# Altium schematic symbol library x-io.SchLib: 162 symbols
Pins are listed as number, name and electrical type; pins without a type are passive.

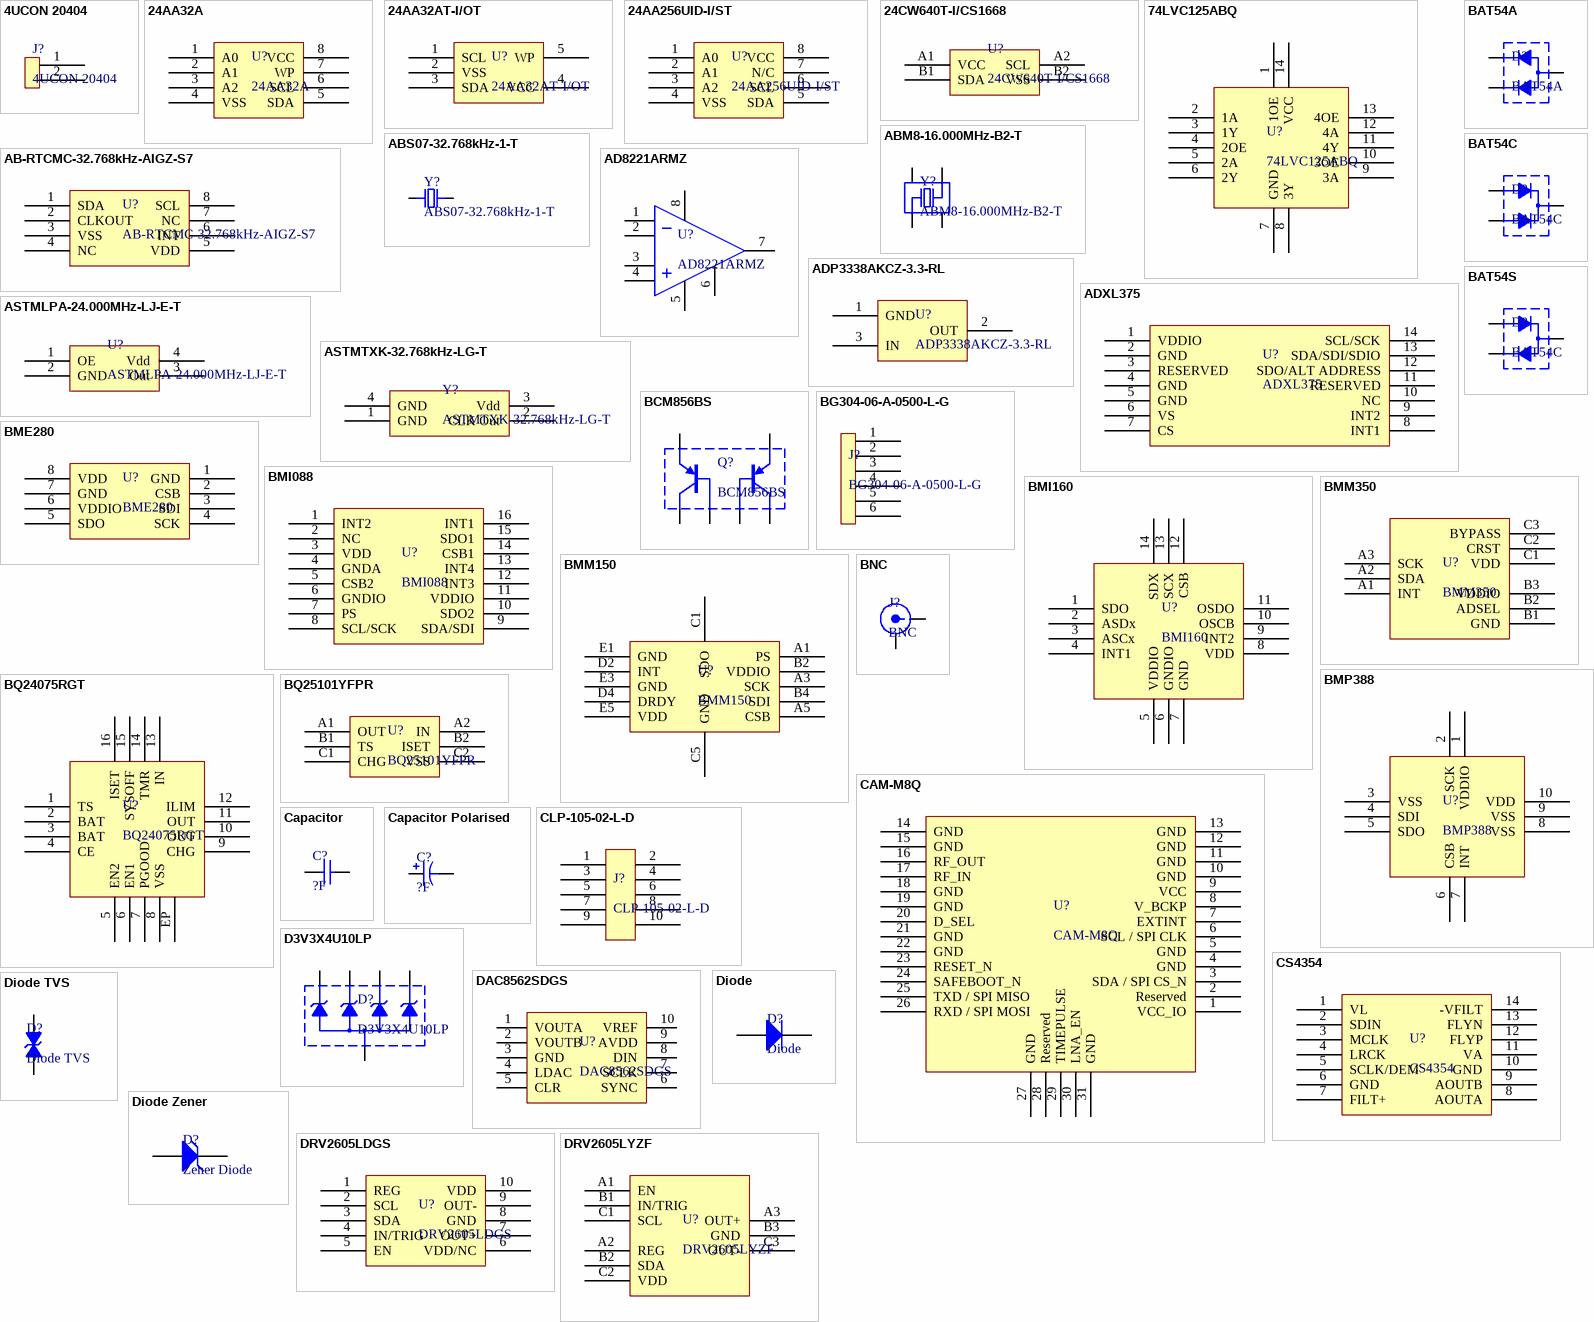
[diagram p0: symbols 4UCON 20404 to DRV2605LYZF]

## 4UCON 20404
designator J?
footprint 4UCON 20404
pins: 1, 2

## 24AA32A
designator U?
footprint SOIC-8
footprint TSSOP-8
footprint MSOP-8
footprint TDFN-8 2x3mm
pins: 1 A0, 2 A1, 3 A2, 4 VSS, 5 SDA, 6 SCL, 7 WP, 8 VCC

## 24AA32AT-I/OT
designator U?
footprint SOT-23-5
pins: 1 SCL, 2 VSS, 3 SDA, 4 VCC, 5 WP

## 24AA256UID-I/ST
designator U?
footprint TSSOP-8
pins: 1 A0, 2 A1, 3 A2, 4 VSS, 5 SDA, 6 SCL, 7 N/C, 8 VCC

## 24CW640T-I/CS1668
designator U?
footprint 24CW640T-I/CS1668
pins: A1 VCC, A2 SCL, B1 SDA, B2 VSS

## 74LVC125ABQ
designator U?
footprint DHVQFN14
pins: 1 1OE, 2 1A, 3 1Y, 4 2OE, 5 2A, 6 2Y, 7 GND, 8 3Y, 9 3A, 10 3OE, 11 4Y, 12 4A, 13 4OE, 14 VCC

## AB-RTCMC-32.768kHz-AIGZ-S7
designator U?
footprint Ceramic-8
pins: 1 SDA, 2 CLKOUT, 3 VSS, 4 NC, 5 VDD, 6 INT, 7 NC, 8 SCL

## ABM8-16.000MHz-B2-T
designator Y?
footprint ABM8
pins: 1 Y1, 2 GND, 3 Y2, 4 GND

## ABS07-32.768kHz-1-T
designator Y?
footprint ABS07
pins: 1, 2

## AD8221ARMZ
designator U?
footprint MSOP-8
pins: 1 -IN, 2 RG, 3 RG, 4 +IN, 5 -VS, 6 REF, 7 VOUT, 8 +VS

## ADP3338AKCZ-3.3-RL
designator U?
footprint SOT-223
pins: 1 GND, 2 OUT, 3 IN

## ADXL375
designator U?
footprint ADXL375
pins: 1 VDDIO, 2 GND, 3 RESERVED, 4 GND, 5 GND, 6 VS, 7 CS, 8 INT1, 9 INT2, 10 NC, 11 RESERVED, 12 SDO/ALT ADDRESS, 13 SDA/SDI/SDIO, 14 SCL/SCK

## ASTMLPA-24.000MHz-LJ-E-T
designator U?
footprint ASTMLPA
pins: 1 OE, 2 GND, 3 Out, 4 Vdd

## ASTMTXK-32.768kHz-LG-T
designator Y?
footprint ASTMTXK
pins: 1 GND, 2 CLK Out, 3 Vdd, 4 GND

## BAT54A
designator D?
footprint SOT-23
footprint SOT-323
pins: 1 K1, 2 K2, 3 A

## BAT54C
designator D?
footprint SOT-323
footprint SOT-23
pins: 1 A1, 2 A2, 3 K

## BAT54S
designator D?, comment BAT54C
footprint SOT-323
footprint SOT-23
pins: 1 A1, 2 A2, 3 K

## BCM856BS
designator Q?
footprint SOT-363
pins: 1 E1, 2 B1, 3 C2, 4 E2, 5 B2, 6 C1

## BG304-06-A-0500-L-G
designator J?
footprint BG304-06-A-0500-L-G
pins: 1, 2, 3, 4, 5, 6

## BME280
designator U?
footprint BME280
pins: 1 GND, 2 CSB, 3 SDI, 4 SCK, 5 SDO, 6 VDDIO, 7 GND, 8 VDD

## BMI088
designator U?
footprint BMI088
pins: 1 INT2, 2 NC, 3 VDD, 4 GNDA, 5 CSB2, 6 GNDIO, 7 PS, 8 SCL/SCK, 9 SDA/SDI, 10 SDO2, 11 VDDIO, 12 INT3, 13 INT4, 14 CSB1, 15 SDO1, 16 INT1

## BMI160
designator U?
footprint BMI160
pins: 1 SDO, 2 ASDx, 3 ASCx, 4 INT1, 5 VDDIO, 6 GNDIO, 7 GND, 8 VDD, 9 INT2, 10 OSCB, 11 OSDO, 12 CSB, 13 SCX, 14 SDX

## BMM150
designator U?
footprint BMM150
pins: A1 PS, A3 SCK, A5 CSB, B2 VDDIO, B4 SDI, C1 SDO, C5 GND, D2 INT, D4 DRDY, E1 GND, E3 GND, E5 VDD

## BMM350
designator U?
footprint BMM350
pins: A1 INT, A2 SDA, A3 SCK, B1 GND, B2 ADSEL, B3 VDDIO, C1 VDD, C2 CRST, C3 BYPASS

## BMP388
designator U?
footprint BMP388
pins: 1 VDDIO, 2 SCK, 3 VSS, 4 SDI, 5 SDO, 6 CSB, 7 INT, 8 VSS, 9 VSS, 10 VDD

## BNC
designator J?
footprint B6252H7-NPP3G-50
footprint Amphenol 112640
pins: Shield, Signal

## BQ24075RGT
designator U?
footprint VQFN-16
pins: 1 TS, 2 BAT, 3 BAT, 4 CE, 5 EN2, 6 EN1, 7 PGOOD, 8 VSS, 9 CHG, 10 OUT, 11 OUT, 12 ILIM, 13 IN, 14 TMR, 15 SYSOFF, 16 ISET, EP *

## BQ25101YFPR
designator U?
footprint BQ25101YFPR
pins: A1 OUT, A2 IN, B1 TS, B2 ISET, C1 CHG, C2 VSS

## CAM-M8Q
designator U?
footprint CAM-M8Q
pins: 1 VCC_IO, 2 Reserved, 3 SDA / SPI CS_N, 4 GND, 5 GND, 6 SCL / SPI CLK, 7 EXTINT, 8 V_BCKP, 9 VCC, 10 GND, 11 GND, 12 GND, 13 GND, 14 GND, 15 GND, 16 RF_OUT, 17 RF_IN, 18 GND, 19 GND, 20 D_SEL, 21 GND, 22 GND, 23 RESET_N, 24 SAFEBOOT_N, 25 TXD / SPI MISO, 26 RXD / SPI MOSI, 27 GND, 28 Reserved, 29 TIMEPULSE, 30 LNA_EN, 31 GND

## Capacitor
designator C?, comment ?F
footprint Capacitor 0402
footprint Capacitor 0603
footprint Capacitor 0805
footprint Capacitor 0201
pins: 1, 2

## Capacitor Polarised
designator C?, comment ?F
footprint Tantalum Case D
pins: N, P

## CLP-105-02-L-D
designator J?
footprint CLP-105-02-L-D
pins: 1 *, 2 *, 3 *, 4 *, 5 *, 6 *, 7 *, 8 *, 9 *, 10 *

## CS4354
designator U?
footprint SOIC-14
pins: 1 VL, 2 SDIN, 3 MCLK, 4 LRCK, 5 SCLK/DEM, 6 GND, 7 FILT+, 8 AOUTA, 9 AOUTB, 10 GND, 11 VA, 12 FLYP, 13 FLYN, 14 -VFILT

## D3V3X4U10LP
designator D?
footprint D3V3X4U10LP
pins: A, K1, K2, K3, K4

## DAC8562SDGS
designator U?
footprint VSSOP-10
pins: 1 VOUTA, 2 VOUTB, 3 GND, 4 LDAC, 5 CLR, 6 SYNC, 7 SCLK, 8 DIN, 9 AVDD, 10 VREF

## Diode
designator D?
footprint DO-214AC
footprint SOD-123
footprint DSN2
pins: A, K

## Diode TVS
designator D?
footprint Diode TVS 0402
footprint Diode TVS 0603
pins: 1 *, 2 *

## Diode Zener
designator D?, comment Zener Diode
footprint SOD-123
pins: A, K

## DRV2605LDGS
designator U?
footprint VSSop-10
pins: 1 REG, 2 SCL, 3 SDA, 4 IN/TRIG, 5 EN, 6 VDD/NC, 7 OUT+, 8 GND, 9 OUT-, 10 VDD

## DRV2605LYZF
designator U?
footprint DRV2605LYZF
pins: A1 EN, A2 REG, A3 OUT+, B1 IN/TRIG, B2 SDA, B3 GND, C1 SCL, C2 VDD, C3 OUT-

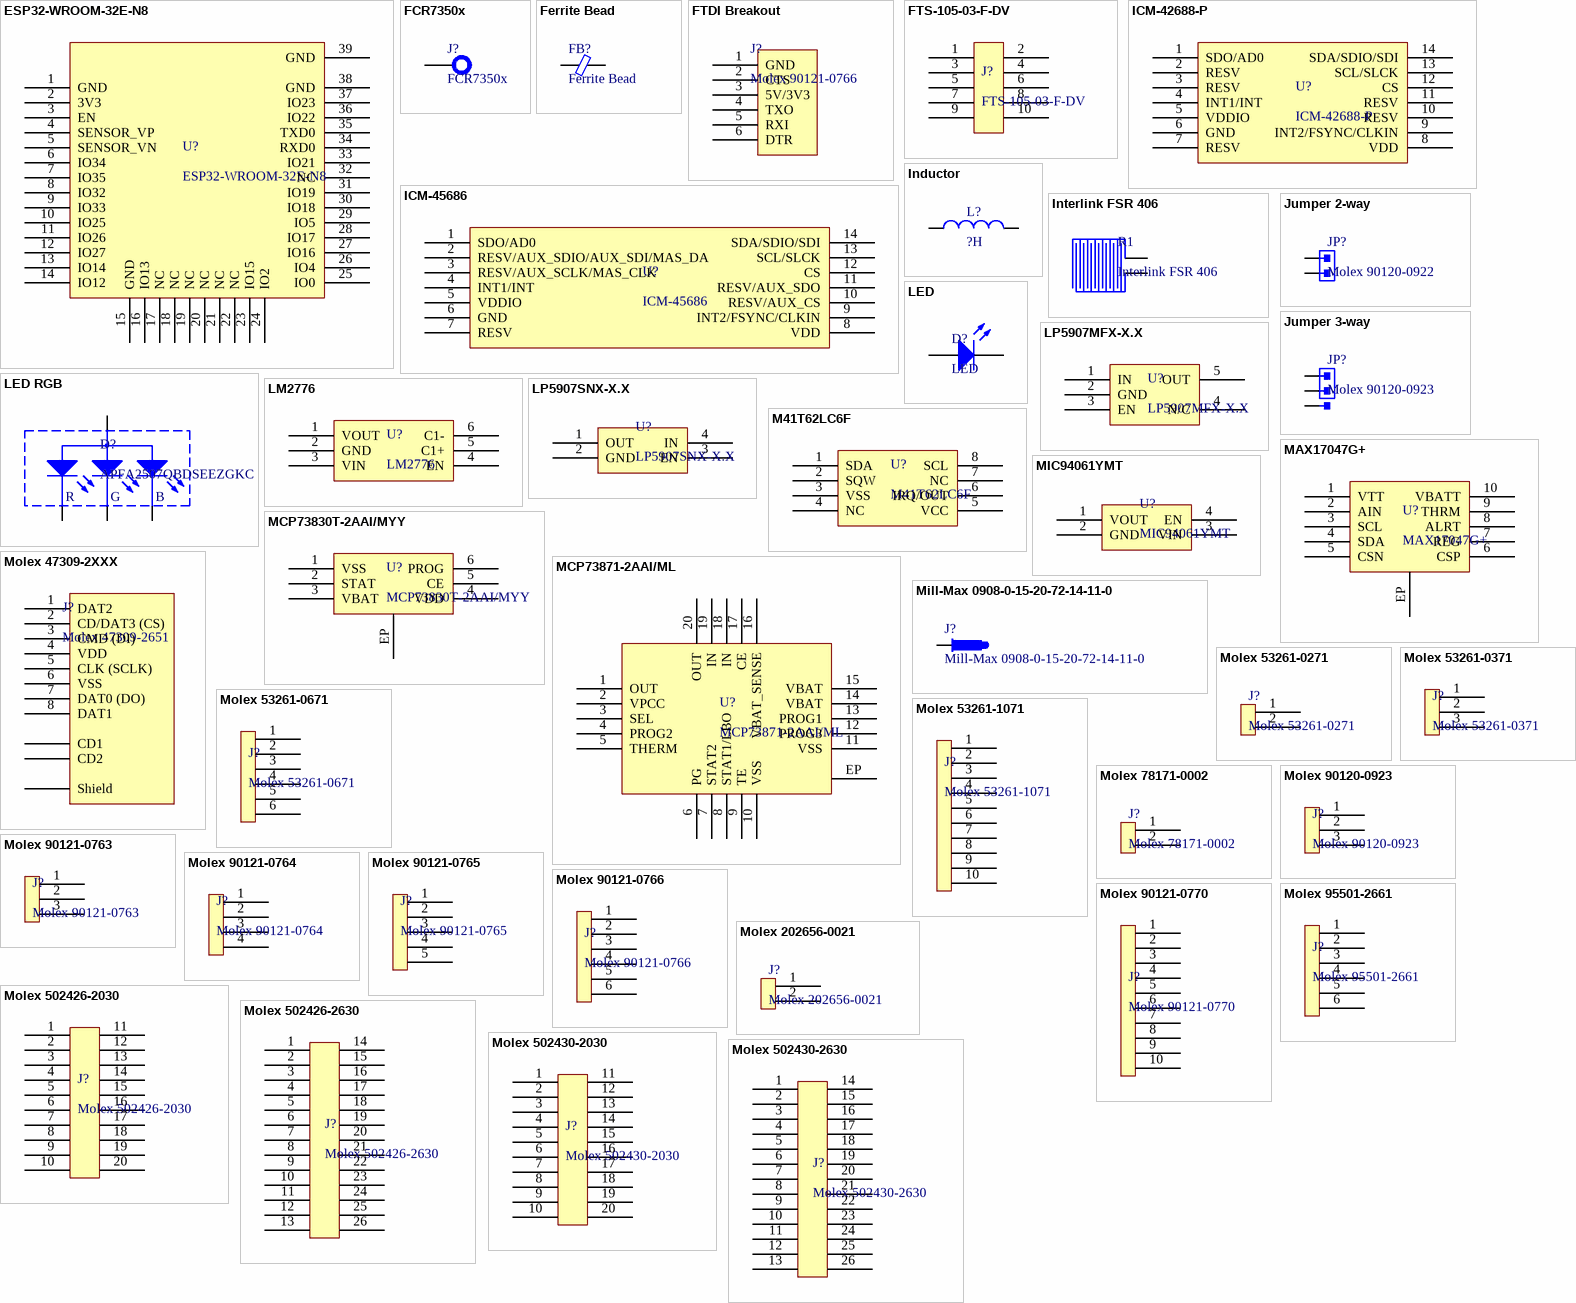
[diagram p1: symbols ESP32-WROOM-32E-N8 to Molex 502430-2630]

## ESP32-WROOM-32E-N8
designator U?
footprint ESP32-WROOM-32E-N8
pins: 1 GND, 2 3V3, 3 EN, 4 SENSOR_VP, 5 SENSOR_VN, 6 IO34, 7 IO35, 8 IO32, 9 IO33, 10 IO25, 11 IO26, 12 IO27, 13 IO14, 14 IO12, 15 GND, 16 IO13, 17 NC, 18 NC, 19 NC, 20 NC, 21 NC, 22 NC, 23 IO15, 24 IO2, 25 IO0, 26 IO4, 27 IO16, 28 IO17, 29 IO5, 30 IO18, 31 IO19, 32 NC, 33 IO21, 34 RXD0, 35 TXD0, 36 IO22, 37 IO23, 38 GND, 39 GND

## FCR7350x
designator J?
footprint FCR7350B
footprint FCR7350R
pins: Signal *

## Ferrite Bead
designator FB?
footprint Ferrite Bead 0402
pins: 1, 2

## FTDI Breakout
designator J?, comment Molex 90121-0766
footprint Molex 90120-0926
footprint Molex 90121-0766
footprint Molex 90121-0766 with FTDI Breakout
pins: 1 GND, 2 CTS, 3 5V/3V3, 4 TXO, 5 RXI, 6 DTR

## FTS-105-03-F-DV
designator J?
footprint FTS-105-03-F-DV
pins: 1 *, 2 *, 3 *, 4 *, 5 *, 6 *, 7 *, 8 *, 9 *, 10 *

## ICM-42688-P
designator U?
footprint ICM-42688-P
pins: 1 SDO/AD0, 2 RESV, 3 RESV, 4 INT1/INT, 5 VDDIO, 6 GND, 7 RESV, 8 VDD, 9 INT2/FSYNC/CLKIN, 10 RESV, 11 RESV, 12 CS, 13 SCL/SLCK, 14 SDA/SDIO/SDI

## ICM-45686
designator U?
footprint ICM-45686
pins: 1 SDO/AD0, 2 RESV/AUX_SDIO/AUX_SDI/MAS_DA, 3 RESV/AUX_SCLK/MAS_CLK, 4 INT1/INT, 5 VDDIO, 6 GND, 7 RESV, 8 VDD, 9 INT2/FSYNC/CLKIN, 10 RESV/AUX_CS, 11 RESV/AUX_SDO, 12 CS, 13 SCL/SLCK, 14 SDA/SDIO/SDI

## Inductor
designator L?, comment ?H
footprint MSS5131
footprint Inductor 1008
footprint VLCF4020
footprint LQH3NPN
footprint SRN3015C
pins: 1, 2

## Interlink FSR 406
designator R1
footprint Interlink FSR 406
pins: 1, 2

## Jumper 2-way
designator JP?, comment Molex 90120-0922
footprint Molex 90120-0922 with jumper
pins: 1, 2

## Jumper 3-way
designator JP?, comment Molex 90120-0923
footprint Molex 90120-0923 with jumper
pins: 1, 2, 3

## LED
designator D?
footprint LED 0603
footprint LED 3mm
pins: A, K

## LED RGB
designator D?, comment APFA2507QBDSEEZGKC
footprint APFA2507QBDSEEZGKC
pins: A, KB, KG, KR
text: R; G; B

## LM2776
designator U?
footprint SOT-23-6
pins: 1 VOUT, 2 GND, 3 VIN, 4 EN, 5 C1+, 6 C1-

## LP5907MFX-X.X
designator U?
footprint SOT-23-5
pins: 1 IN, 2 GND, 3 EN, 4 N/C, 5 OUT

## LP5907SNX-X.X
designator U?
footprint X2SON
pins: 1 OUT, 2 GND, 3 EN, 4 IN

## M41T62LC6F
designator U?
footprint Ceramic-8
pins: 1 SDA, 2 SQW, 3 VSS, 4 NC, 5 VCC, 6 IRQ/OUT, 7 NC, 8 SCL

## MAX17047G+
designator U?
footprint TDFN-10 3x3mm
pins: 1 VTT, 2 AIN, 3 SCL, 4 SDA, 5 CSN, 6 CSP, 7 REG, 8 ALRT, 9 THRM, 10 VBATT, EP

## MCP73830T-2AAI/MYY
designator U?
footprint TDFN-6 2x2mm
pins: 1 VSS, 2 STAT, 3 VBAT, 4 VDD, 5 CE, 6 PROG, EP

## MCP73871-2AAI/ML
designator U?
footprint QFN-20 EP
pins: 1 OUT, 2 VPCC, 3 SEL, 4 PROG2, 5 THERM, 6 PG, 7 STAT2, 8 STAT1/LBO, 9 TE, 10 VSS, 11 VSS, 12 PROG3, 13 PROG1, 14 VBAT, 15 VBAT, 16 VBAT_SENSE, 17 CE, 18 IN, 19 IN, 20 OUT, EP

## MIC94061YMT
designator U?
footprint MIC94061YMT
pins: 1 VOUT, 2 GND, 3 VIN, 4 EN

## Mill-Max 0908-0-15-20-72-14-11-0
designator J?
footprint Mill-Max 0908-0-15-20-72-14-11-0
pins: 0

## Molex 47309-2XXX
designator J?, comment Molex 47309-2651
footprint Molex 47309-2651
footprint Molex 47309-2651 with microSD
footprint Molex 47309-2285
footprint Molex 47309-2285 with microSD
pins: 1 DAT2, 2 CD/DAT3 (CS), 3 CMD (DI), 4 VDD, 5 CLK (SCLK), 6 VSS, 7 DAT0 (DO), 8 DAT1, CD1, CD2, Shield

## Molex 53261-0271
designator J?
footprint Molex 53261-0271
pins: 1, 2

## Molex 53261-0371
designator J?
footprint Molex 53261-0371
pins: 1, 2, 3

## Molex 53261-0671
designator J?
footprint Molex 53261-0671
pins: 1, 2, 3, 4, 5, 6

## Molex 53261-1071
designator J?
footprint Molex 53261-1071
pins: 1, 2, 3, 4, 5, 6, 7, 8, 9, 10

## Molex 78171-0002
designator J?
footprint Molex 78171-0002
pins: 1, 2

## Molex 90120-0923
designator J?
footprint Molex 90120-0923
pins: 1, 2, 3

## Molex 90121-0763
designator J?
footprint Molex 90121-0763
pins: 1, 2, 3

## Molex 90121-0764
designator J?
footprint Molex 90121-0764
pins: 1, 2, 3, 4

## Molex 90121-0765
designator J?
footprint Molex 90121-0765
pins: 1, 2, 3, 4, 5

## Molex 90121-0766
designator J?
footprint Molex 90121-0766
pins: 1, 2, 3, 4, 5, 6

## Molex 90121-0770
designator J?
footprint Molex 90121-0770
pins: 1, 2, 3, 4, 5, 6, 7, 8, 9, 10

## Molex 95501-2661
designator J?
footprint Molex 95501-2661
pins: 1, 2, 3, 4, 5, 6

## Molex 202656-0021
designator J?
footprint Molex 202656-0021
pins: 1, 2

## Molex 502426-2030
designator J?
footprint Molex 502426-2030
pins: 1, 2, 3, 4, 5, 6, 7, 8, 9, 10, 11, 12, 13, 14, 15, 16, 17, 18, 19, 20

## Molex 502426-2630
designator J?
footprint Molex 502426-2630
pins: 1, 2, 3, 4, 5, 6, 7, 8, 9, 10, 11, 12, 13, 14, 15, 16, 17, 18, 19, 20, 21, 22, 23, 24, 25, 26

## Molex 502430-2030
designator J?
footprint Molex 502430-2030
pins: 1, 2, 3, 4, 5, 6, 7, 8, 9, 10, 11, 12, 13, 14, 15, 16, 17, 18, 19, 20

## Molex 502430-2630
designator J?
footprint Molex 502430-2630
pins: 1, 2, 3, 4, 5, 6, 7, 8, 9, 10, 11, 12, 13, 14, 15, 16, 17, 18, 19, 20, 21, 22, 23, 24, 25, 26

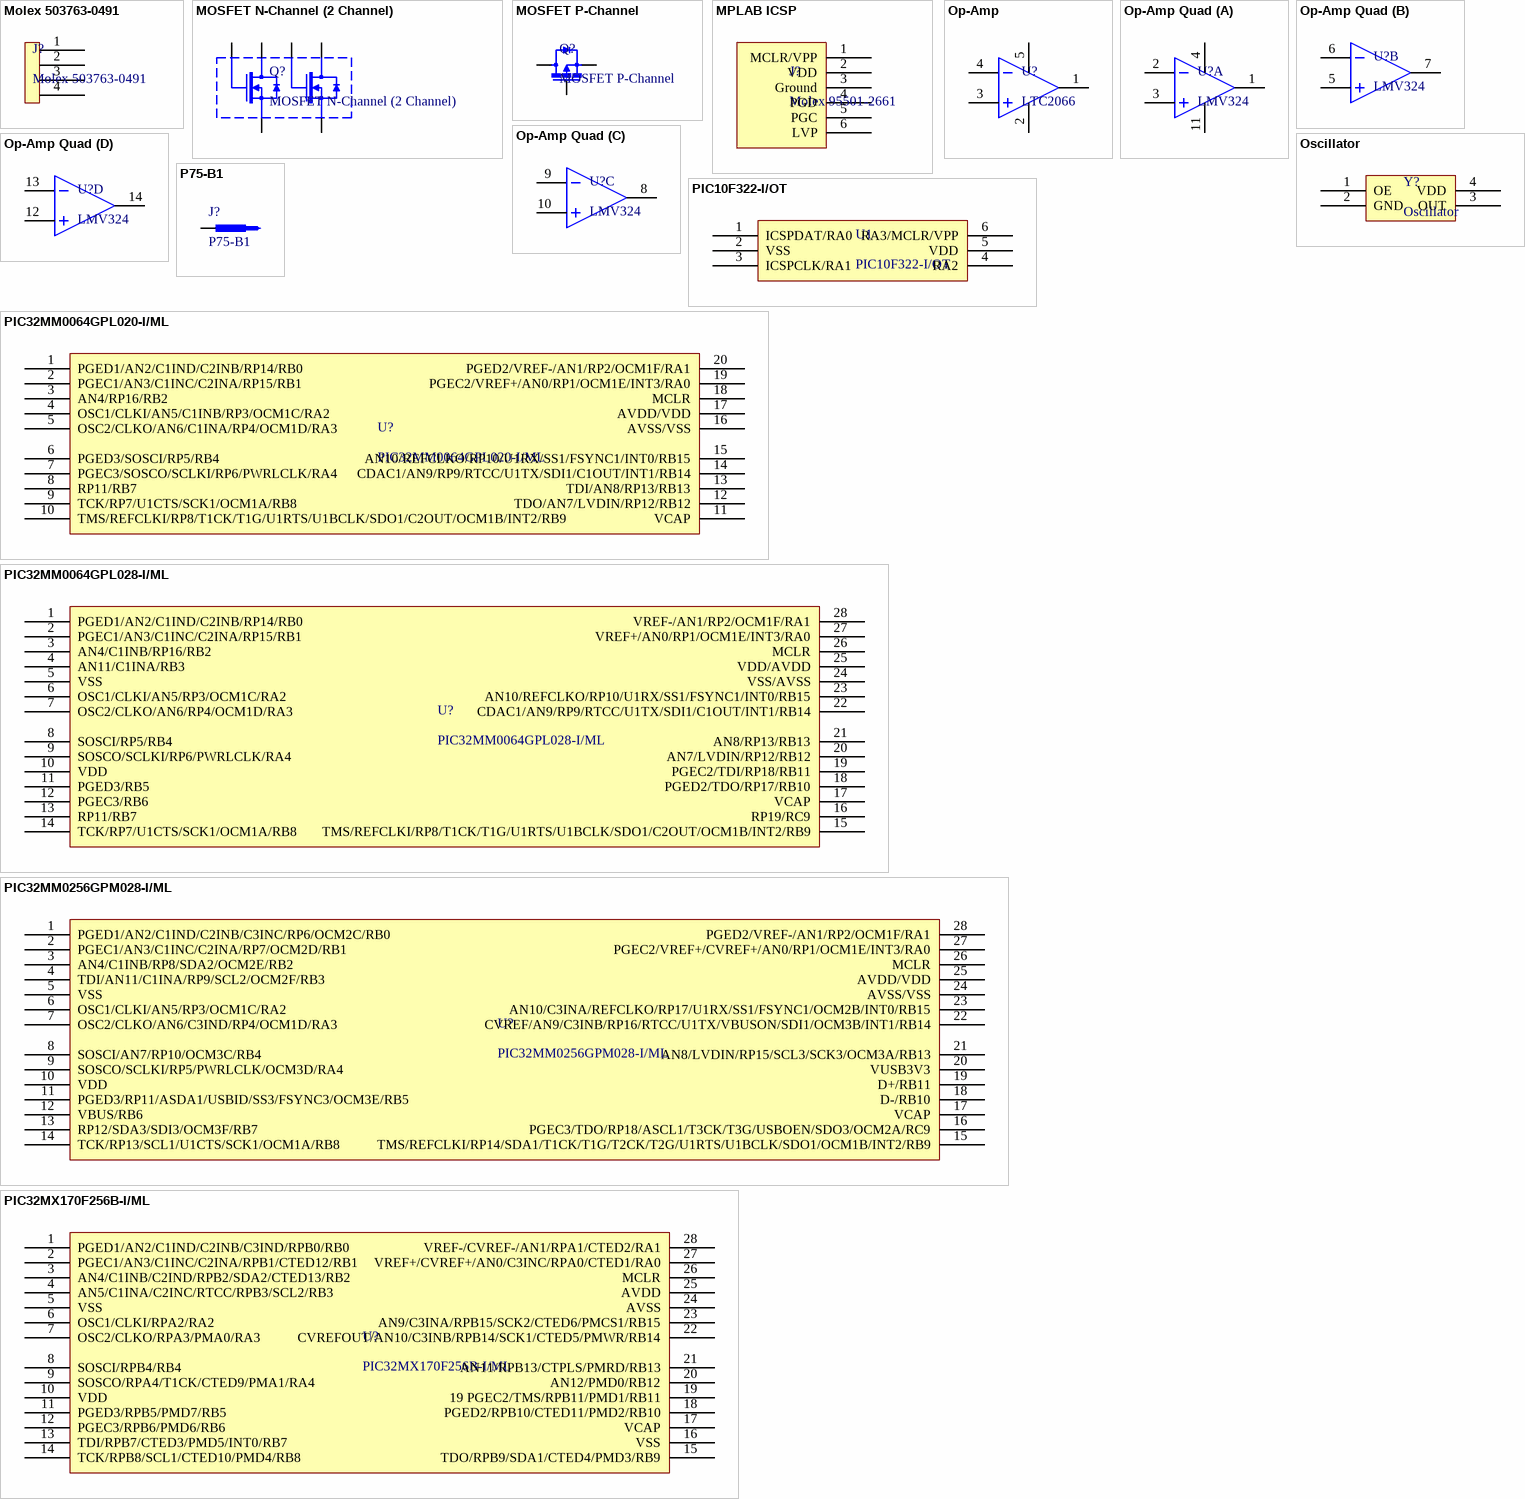
[diagram p2: symbols Molex 503763-0491 to PIC32MX170F256B-I/ML]

## Molex 503763-0491
designator J?
footprint Molex 503763-0491
pins: 1, 2, 3, 4

## MOSFET N-Channel (2 Channel)
designator Q?
footprint SOT-666; pin to pad D1>6 D2>3 G1>2 G2>5 S1>1 S2>4
footprint DFN2020-6; pin to pad D1>6+7 D2>3+8 G1>2 G2>5 S1>1 S2>4
pins: D1, D2, G1, G2, S1, S2

## MOSFET P-Channel
designator Q?
footprint SIA437DJ-T1-GE3
footprint SOT-323; pin to pad D>3 G>1 S>2
footprint MICRO FOOT 4
footprint SOT-23; pin to pad D>3 G>1 S>2
pins: D, G, S

## MPLAB ICSP
designator J?, comment Molex 95501-2661
footprint Molex 95501-2661
footprint Molex 90121-0766
footprint Molex 90120-0926
footprint Tag Connect
footprint Tag Connect No Legs
pins: 1 MCLR/VPP, 2 VDD, 3 Ground, 4 PGD, 5 PGC, 6 LVP

## Op-Amp
designator U?, comment LTC2066
footprint SOT-23-5
pins: 1 Output, 2 V-, 3 Non-Intervting Input, 4 Inverting Input, 5 V+

## Op-Amp Quad
designator U?, comment LMV324
footprint TSSOP-14
part A pins: 1 Output, 2 Inverting Input, 3 Non-Intervting Input, 4 V+, 11 V-
part B pins: 5 Non-Intervting Input, 6 Inverting Input, 7 Output
part C pins: 8 Output, 9 Inverting Input, 10 Non-Intervting Input
part D pins: 12 Non-Intervting Input, 13 Inverting Input, 14 Output

## Oscillator
designator Y?
footprint DSC6001HI2B-024.0000
footprint ECS 2x2.5mm
pins: 1 OE, 2 GND, 3 OUT, 4 VDD

## P75-B1
designator J?
footprint P75-B1
pins: 0

## PIC10F322-I/OT
designator U1
footprint SOT-23-6
pins: 1 ICSPDAT/RA0, 2 VSS, 3 ICSPCLK/RA1, 4 RA2, 5 VDD, 6 RA3/MCLR/VPP

## PIC32MM0064GPL020-I/ML
designator U?
footprint QFN-20
pins: 1 PGED1/AN2/C1IND/C2INB/RP14/RB0, 2 PGEC1/AN3/C1INC/C2INA/RP15/RB1, 3 AN4/RP16/RB2, 4 OSC1/CLKI/AN5/C1INB/RP3/OCM1C/RA2, 5 OSC2/CLKO/AN6/C1INA/RP4/OCM1D/RA3, 6 PGED3/SOSCI/RP5/RB4, 7 PGEC3/SOSCO/SCLKI/RP6/PWRLCLK/RA4, 8 RP11/RB7, 9 TCK/RP7/U1CTS/SCK1/OCM1A/RB8, 10 TMS/REFCLKI/RP8/T1CK/T1G/U1RTS/U1BCLK/SDO1/C2OUT/OCM1B/INT2/RB9, 11 VCAP, 12 TDO/AN7/LVDIN/RP12/RB12, 13 TDI/AN8/RP13/RB13, 14 CDAC1/AN9/RP9/RTCC/U1TX/SDI1/C1OUT/INT1/RB14, 15 AN10/REFCLKO/RP10/U1RX/SS1/FSYNC1/INT0/RB15, 16 AVSS/VSS, 17 AVDD/VDD, 18 MCLR, 19 PGEC2/VREF+/AN0/RP1/OCM1E/INT3/RA0, 20 PGED2/VREF-/AN1/RP2/OCM1F/RA1

## PIC32MM0064GPL028-I/ML
designator U?
footprint QFN-28
pins: 1 PGED1/AN2/C1IND/C2INB/RP14/RB0, 2 PGEC1/AN3/C1INC/C2INA/RP15/RB1, 3 AN4/C1INB/RP16/RB2, 4 AN11/C1INA/RB3, 5 VSS, 6 OSC1/CLKI/AN5/RP3/OCM1C/RA2, 7 OSC2/CLKO/AN6/RP4/OCM1D/RA3, 8 SOSCI/RP5/RB4, 9 SOSCO/SCLKI/RP6/PWRLCLK/RA4, 10 VDD, 11 PGED3/RB5, 12 PGEC3/RB6, 13 RP11/RB7, 14 TCK/RP7/U1CTS/SCK1/OCM1A/RB8, 15 TMS/REFCLKI/RP8/T1CK/T1G/U1RTS/U1BCLK/SDO1/C2OUT/OCM1B/INT2/RB9, 16 RP19/RC9, 17 VCAP, 18 PGED2/TDO/RP17/RB10, 19 PGEC2/TDI/RP18/RB11, 20 AN7/LVDIN/RP12/RB12, 21 AN8/RP13/RB13, 22 CDAC1/AN9/RP9/RTCC/U1TX/SDI1/C1OUT/INT1/RB14, 23 AN10/REFCLKO/RP10/U1RX/SS1/FSYNC1/INT0/RB15, 24 VSS/AVSS, 25 VDD/AVDD, 26 MCLR, 27 VREF+/AN0/RP1/OCM1E/INT3/RA0, 28 VREF-/AN1/RP2/OCM1F/RA1

## PIC32MM0256GPM028-I/ML
designator U?
footprint QFN-28
pins: 1 PGED1/AN2/C1IND/C2INB/C3INC/RP6/OCM2C/RB0, 2 PGEC1/AN3/C1INC/C2INA/RP7/OCM2D/RB1, 3 AN4/C1INB/RP8/SDA2/OCM2E/RB2, 4 TDI/AN11/C1INA/RP9/SCL2/OCM2F/RB3, 5 VSS, 6 OSC1/CLKI/AN5/RP3/OCM1C/RA2, 7 OSC2/CLKO/AN6/C3IND/RP4/OCM1D/RA3, 8 SOSCI/AN7/RP10/OCM3C/RB4, 9 SOSCO/SCLKI/RP5/PWRLCLK/OCM3D/RA4, 10 VDD, 11 PGED3/RP11/ASDA1/USBID/SS3/FSYNC3/OCM3E/RB5, 12 VBUS/RB6, 13 RP12/SDA3/SDI3/OCM3F/RB7, 14 TCK/RP13/SCL1/U1CTS/SCK1/OCM1A/RB8, 15 TMS/REFCLKI/RP14/SDA1/T1CK/T1G/T2CK/T2G/U1RTS/U1BCLK/SDO1/OCM1B/INT2/RB9, 16 PGEC3/TDO/RP18/ASCL1/T3CK/T3G/USBOEN/SDO3/OCM2A/RC9, 17 VCAP, 18 D-/RB10, 19 D+/RB11, 20 VUSB3V3, 21 AN8/LVDIN/RP15/SCL3/SCK3/OCM3A/RB13, 22 CVREF/AN9/C3INB/RP16/RTCC/U1TX/VBUSON/SDI1/OCM3B/INT1/RB14, 23 AN10/C3INA/REFCLKO/RP17/U1RX/SS1/FSYNC1/OCM2B/INT0/RB15, 24 AVSS/VSS, 25 AVDD/VDD, 26 MCLR, 27 PGEC2/VREF+/CVREF+/AN0/RP1/OCM1E/INT3/RA0, 28 PGED2/VREF-/AN1/RP2/OCM1F/RA1

## PIC32MX170F256B-I/ML
designator U?
footprint QFN-28
pins: 1 PGED1/AN2/C1IND/C2INB/C3IND/RPB0/RB0, 2 PGEC1/AN3/C1INC/C2INA/RPB1/CTED12/RB1, 3 AN4/C1INB/C2IND/RPB2/SDA2/CTED13/RB2, 4 AN5/C1INA/C2INC/RTCC/RPB3/SCL2/RB3, 5 VSS, 6 OSC1/CLKI/RPA2/RA2, 7 OSC2/CLKO/RPA3/PMA0/RA3, 8 SOSCI/RPB4/RB4, 9 SOSCO/RPA4/T1CK/CTED9/PMA1/RA4, 10 VDD, 11 PGED3/RPB5/PMD7/RB5, 12 PGEC3/RPB6/PMD6/RB6, 13 TDI/RPB7/CTED3/PMD5/INT0/RB7, 14 TCK/RPB8/SCL1/CTED10/PMD4/RB8, 15 TDO/RPB9/SDA1/CTED4/PMD3/RB9, 16 VSS, 17 VCAP, 18 PGED2/RPB10/CTED11/PMD2/RB10, 19 19 PGEC2/TMS/RPB11/PMD1/RB11, 20 AN12/PMD0/RB12, 21 AN11/RPB13/CTPLS/PMRD/RB13, 22 CVREFOUT/AN10/C3INB/RPB14/SCK1/CTED5/PMWR/RB14, 23 AN9/C3INA/RPB15/SCK2/CTED6/PMCS1/RB15, 24 AVSS, 25 AVDD, 26 MCLR, 27 VREF+/CVREF+/AN0/C3INC/RPA0/CTED1/RA0, 28 VREF-/CVREF-/AN1/RPA1/CTED2/RA1

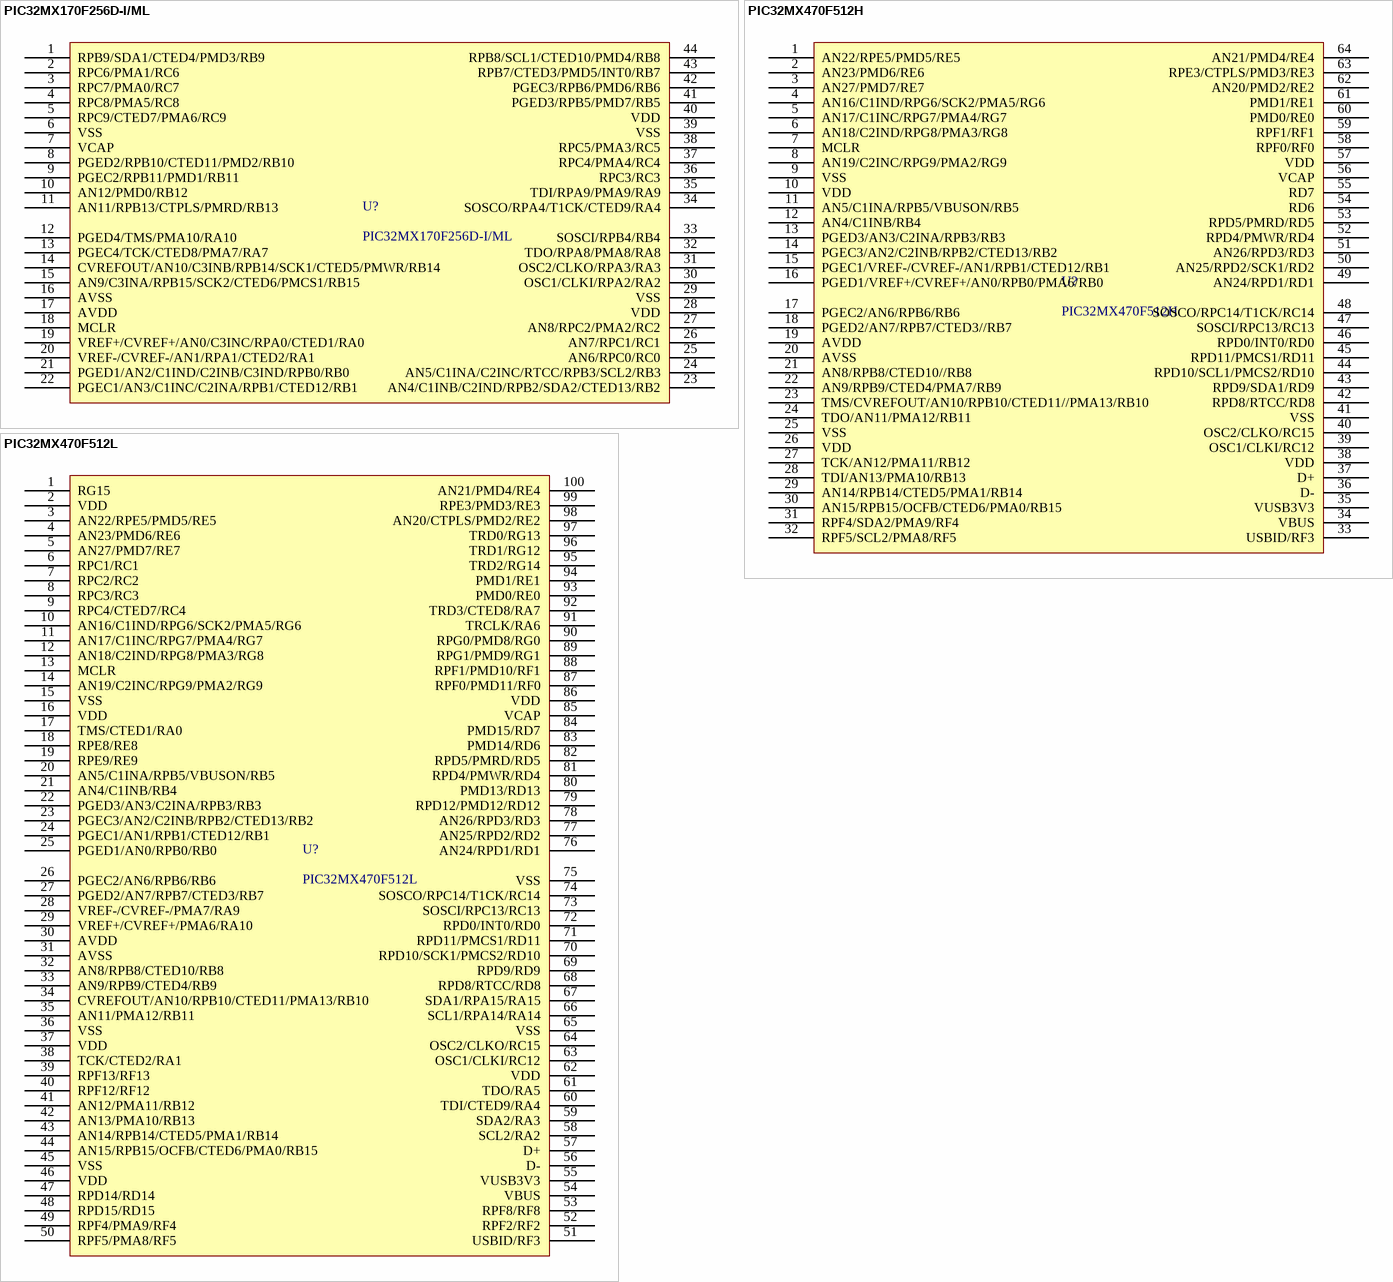
[diagram p3: symbols PIC32MX170F256D-I/ML to PIC32MX470F512L]

## PIC32MX170F256D-I/ML
designator U?
footprint QFN-44
pins: 1 RPB9/SDA1/CTED4/PMD3/RB9, 2 RPC6/PMA1/RC6, 3 RPC7/PMA0/RC7, 4 RPC8/PMA5/RC8, 5 RPC9/CTED7/PMA6/RC9, 6 VSS, 7 VCAP, 8 PGED2/RPB10/CTED11/PMD2/RB10, 9 PGEC2/RPB11/PMD1/RB11, 10 AN12/PMD0/RB12, 11 AN11/RPB13/CTPLS/PMRD/RB13, 12 PGED4/TMS/PMA10/RA10, 13 PGEC4/TCK/CTED8/PMA7/RA7, 14 CVREFOUT/AN10/C3INB/RPB14/SCK1/CTED5/PMWR/RB14, 15 AN9/C3INA/RPB15/SCK2/CTED6/PMCS1/RB15, 16 AVSS, 17 AVDD, 18 MCLR, 19 VREF+/CVREF+/AN0/C3INC/RPA0/CTED1/RA0, 20 VREF-/CVREF-/AN1/RPA1/CTED2/RA1, 21 PGED1/AN2/C1IND/C2INB/C3IND/RPB0/RB0, 22 PGEC1/AN3/C1INC/C2INA/RPB1/CTED12/RB1, 23 AN4/C1INB/C2IND/RPB2/SDA2/CTED13/RB2, 24 AN5/C1INA/C2INC/RTCC/RPB3/SCL2/RB3, 25 AN6/RPC0/RC0, 26 AN7/RPC1/RC1, 27 AN8/RPC2/PMA2/RC2, 28 VDD, 29 VSS, 30 OSC1/CLKI/RPA2/RA2, 31 OSC2/CLKO/RPA3/RA3, 32 TDO/RPA8/PMA8/RA8, 33 SOSCI/RPB4/RB4, 34 SOSCO/RPA4/T1CK/CTED9/RA4, 35 TDI/RPA9/PMA9/RA9, 36 RPC3/RC3, 37 RPC4/PMA4/RC4, 38 RPC5/PMA3/RC5, 39 VSS, 40 VDD, 41 PGED3/RPB5/PMD7/RB5, 42 PGEC3/RPB6/PMD6/RB6, 43 RPB7/CTED3/PMD5/INT0/RB7, 44 RPB8/SCL1/CTED10/PMD4/RB8

## PIC32MX470F512H
designator U?
footprint QFN-64
footprint TQFP-64
pins: 1 AN22/RPE5/PMD5/RE5, 2 AN23/PMD6/RE6, 3 AN27/PMD7/RE7, 4 AN16/C1IND/RPG6/SCK2/PMA5/RG6, 5 AN17/C1INC/RPG7/PMA4/RG7, 6 AN18/C2IND/RPG8/PMA3/RG8, 7 MCLR, 8 AN19/C2INC/RPG9/PMA2/RG9, 9 VSS, 10 VDD, 11 AN5/C1INA/RPB5/VBUSON/RB5, 12 AN4/C1INB/RB4, 13 PGED3/AN3/C2INA/RPB3/RB3, 14 PGEC3/AN2/C2INB/RPB2/CTED13/RB2, 15 PGEC1/VREF-/CVREF-/AN1/RPB1/CTED12/RB1, 16 PGED1/VREF+/CVREF+/AN0/RPB0/PMA6/RB0, 17 PGEC2/AN6/RPB6/RB6, 18 PGED2/AN7/RPB7/CTED3//RB7, 19 AVDD, 20 AVSS, 21 AN8/RPB8/CTED10//RB8, 22 AN9/RPB9/CTED4/PMA7/RB9, 23 TMS/CVREFOUT/AN10/RPB10/CTED11//PMA13/RB10, 24 TDO/AN11/PMA12/RB11, 25 VSS, 26 VDD, 27 TCK/AN12/PMA11/RB12, 28 TDI/AN13/PMA10/RB13, 29 AN14/RPB14/CTED5/PMA1/RB14, 30 AN15/RPB15/OCFB/CTED6/PMA0/RB15, 31 RPF4/SDA2/PMA9/RF4, 32 RPF5/SCL2/PMA8/RF5, 33 USBID/RF3, 34 VBUS, 35 VUSB3V3, 36 D-, 37 D+, 38 VDD, 39 OSC1/CLKI/RC12, 40 OSC2/CLKO/RC15, 41 VSS, 42 RPD8/RTCC/RD8, 43 RPD9/SDA1/RD9, 44 RPD10/SCL1/PMCS2/RD10, 45 RPD11/PMCS1/RD11, 46 RPD0/INT0/RD0, 47 SOSCI/RPC13/RC13, 48 SOSCO/RPC14/T1CK/RC14, 49 AN24/RPD1/RD1, 50 AN25/RPD2/SCK1/RD2, 51 AN26/RPD3/RD3, 52 RPD4/PMWR/RD4, 53 RPD5/PMRD/RD5, 54 RD6, 55 RD7, 56 VCAP, 57 VDD, 58 RPF0/RF0, 59 RPF1/RF1, 60 PMD0/RE0, 61 PMD1/RE1, 62 AN20/PMD2/RE2, 63 RPE3/CTPLS/PMD3/RE3, 64 AN21/PMD4/RE4

## PIC32MX470F512L
designator U?
footprint TQFP-100 0.4mm
footprint TQFP-100 0.5mm
pins: 1 RG15, 2 VDD, 3 AN22/RPE5/PMD5/RE5, 4 AN23/PMD6/RE6, 5 AN27/PMD7/RE7, 6 RPC1/RC1, 7 RPC2/RC2, 8 RPC3/RC3, 9 RPC4/CTED7/RC4, 10 AN16/C1IND/RPG6/SCK2/PMA5/RG6, 11 AN17/C1INC/RPG7/PMA4/RG7, 12 AN18/C2IND/RPG8/PMA3/RG8, 13 MCLR, 14 AN19/C2INC/RPG9/PMA2/RG9, 15 VSS, 16 VDD, 17 TMS/CTED1/RA0, 18 RPE8/RE8, 19 RPE9/RE9, 20 AN5/C1INA/RPB5/VBUSON/RB5, 21 AN4/C1INB/RB4, 22 PGED3/AN3/C2INA/RPB3/RB3, 23 PGEC3/AN2/C2INB/RPB2/CTED13/RB2, 24 PGEC1/AN1/RPB1/CTED12/RB1, 25 PGED1/AN0/RPB0/RB0, 26 PGEC2/AN6/RPB6/RB6, 27 PGED2/AN7/RPB7/CTED3/RB7, 28 VREF-/CVREF-/PMA7/RA9, 29 VREF+/CVREF+/PMA6/RA10, 30 AVDD, 31 AVSS, 32 AN8/RPB8/CTED10/RB8, 33 AN9/RPB9/CTED4/RB9, 34 CVREFOUT/AN10/RPB10/CTED11/PMA13/RB10, 35 AN11/PMA12/RB11, 36 VSS, 37 VDD, 38 TCK/CTED2/RA1, 39 RPF13/RF13, 40 RPF12/RF12, 41 AN12/PMA11/RB12, 42 AN13/PMA10/RB13, 43 AN14/RPB14/CTED5/PMA1/RB14, 44 AN15/RPB15/OCFB/CTED6/PMA0/RB15, 45 VSS, 46 VDD, 47 RPD14/RD14, 48 RPD15/RD15, 49 RPF4/PMA9/RF4, 50 RPF5/PMA8/RF5, 51 USBID/RF3, 52 RPF2/RF2, 53 RPF8/RF8, 54 VBUS, 55 VUSB3V3, 56 D-, 57 D+, 58 SCL2/RA2, 59 SDA2/RA3, 60 TDI/CTED9/RA4, 61 TDO/RA5, 62 VDD, 63 OSC1/CLKI/RC12, 64 OSC2/CLKO/RC15, 65 VSS, 66 SCL1/RPA14/RA14, 67 SDA1/RPA15/RA15, 68 RPD8/RTCC/RD8, 69 RPD9/RD9, 70 RPD10/SCK1/PMCS2/RD10, 71 RPD11/PMCS1/RD11, 72 RPD0/INT0/RD0, 73 SOSCI/RPC13/RC13, 74 SOSCO/RPC14/T1CK/RC14, 75 VSS, 76 AN24/RPD1/RD1, 77 AN25/RPD2/RD2, 78 AN26/RPD3/RD3, 79 RPD12/PMD12/RD12, 80 PMD13/RD13, 81 RPD4/PMWR/RD4, 82 RPD5/PMRD/RD5, 83 PMD14/RD6, 84 PMD15/RD7, 85 VCAP, 86 VDD, 87 RPF0/PMD11/RF0, 88 RPF1/PMD10/RF1, 89 RPG1/PMD9/RG1, 90 RPG0/PMD8/RG0, 91 TRCLK/RA6, 92 TRD3/CTED8/RA7, 93 PMD0/RE0, 94 PMD1/RE1, 95 TRD2/RG14, 96 TRD1/RG12, 97 TRD0/RG13, 98 AN20/CTPLS/PMD2/RE2, 99 RPE3/PMD3/RE3, 100 AN21/PMD4/RE4

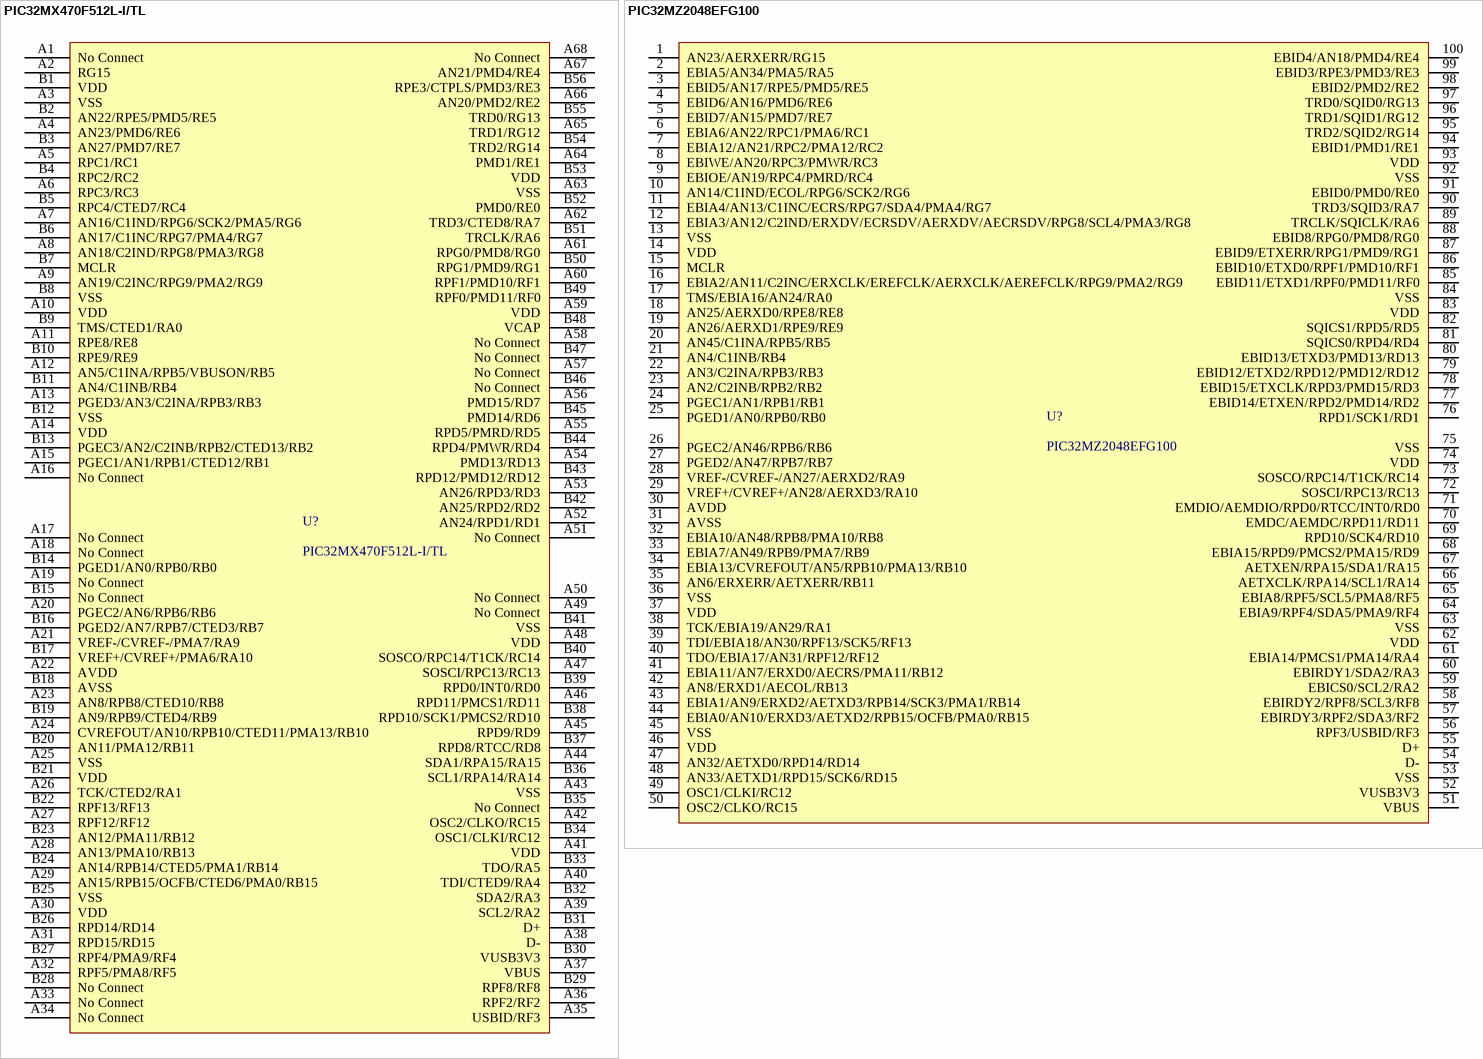
[diagram p4: symbols PIC32MX470F512L-I/TL to PIC32MZ2048EFG100]

## PIC32MX470F512L-I/TL
designator U?
footprint VTLA-124
pins: A1 No Connect, A2 RG15, A3 VSS, A4 AN23/PMD6/RE6, A5 RPC1/RC1, A6 RPC3/RC3, A7 AN16/C1IND/RPG6/SCK2/PMA5/RG6, A8 AN18/C2IND/RPG8/PMA3/RG8, A9 AN19/C2INC/RPG9/PMA2/RG9, A10 VDD, A11 RPE8/RE8, A12 AN5/C1INA/RPB5/VBUSON/RB5, A13 PGED3/AN3/C2INA/RPB3/RB3, A14 VDD, A15 PGEC1/AN1/RPB1/CTED12/RB1, A16 No Connect, A17 No Connect, A18 No Connect, A19 No Connect, A20 PGEC2/AN6/RPB6/RB6, A21 VREF-/CVREF-/PMA7/RA9, A22 AVDD, A23 AN8/RPB8/CTED10/RB8, A24 CVREFOUT/AN10/RPB10/CTED11/PMA13/RB10, A25 VSS, A26 TCK/CTED2/RA1, A27 RPF12/RF12, A28 AN13/PMA10/RB13, A29 AN15/RPB15/OCFB/CTED6/PMA0/RB15, A30 VDD, A31 RPD15/RD15, A32 RPF5/PMA8/RF5, A33 No Connect, A34 No Connect, A35 USBID/RF3, A36 RPF2/RF2, A37 VBUS, A38 D-, A39 SCL2/RA2, A40 TDI/CTED9/RA4, A41 VDD, A42 OSC2/CLKO/RC15, A43 VSS, A44 SDA1/RPA15/RA15, A45 RPD9/RD9, A46 RPD11/PMCS1/RD11, A47 SOSCI/RPC13/RC13, A48 VDD, A49 No Connect, A50 No Connect, A51 No Connect, A52 AN24/RPD1/RD1, A53 AN26/RPD3/RD3, A54 PMD13/RD13, A55 RPD5/PMRD/RD5, A56 PMD15/RD7, A57 No Connect, A58 No Connect, A59 VDD, A60 RPF1/PMD10/RF1, A61 RPG0/PMD8/RG0, A62 TRD3/CTED8/RA7, A63 VSS, A64 PMD1/RE1, A65 TRD1/RG12, A66 AN20/PMD2/RE2, A67 AN21/PMD4/RE4, A68 No Connect, B1 VDD, B2 AN22/RPE5/PMD5/RE5, B3 AN27/PMD7/RE7, B4 RPC2/RC2, B5 RPC4/CTED7/RC4, B6 AN17/C1INC/RPG7/PMA4/RG7, B7 MCLR, B8 VSS, B9 TMS/CTED1/RA0, B10 RPE9/RE9, B11 AN4/C1INB/RB4, B12 VSS, B13 PGEC3/AN2/C2INB/RPB2/CTED13/RB2, B14 PGED1/AN0/RPB0/RB0, B15 No Connect, B16 PGED2/AN7/RPB7/CTED3/RB7, B17 VREF+/CVREF+/PMA6/RA10, B18 AVSS, B19 AN9/RPB9/CTED4/RB9, B20 AN11/PMA12/RB11, B21 VDD, B22 RPF13/RF13, B23 AN12/PMA11/RB12, B24 AN14/RPB14/CTED5/PMA1/RB14, B25 VSS, B26 RPD14/RD14, B27 RPF4/PMA9/RF4, B28 No Connect, B29 RPF8/RF8, B30 VUSB3V3, B31 D+, B32 SDA2/RA3, B33 TDO/RA5, B34 OSC1/CLKI/RC12, B35 No Connect, B36 SCL1/RPA14/RA14, B37 RPD8/RTCC/RD8, B38 RPD10/SCK1/PMCS2/RD10, B39 RPD0/INT0/RD0, B40 SOSCO/RPC14/T1CK/RC14, B41 VSS, B42 AN25/RPD2/RD2, B43 RPD12/PMD12/RD12, B44 RPD4/PMWR/RD4, B45 PMD14/RD6, B46 No Connect, B47 No Connect, B48 VCAP, B49 RPF0/PMD11/RF0, B50 RPG1/PMD9/RG1, B51 TRCLK/RA6, B52 PMD0/RE0, B53 VDD, B54 TRD2/RG14, B55 TRD0/RG13, B56 RPE3/CTPLS/PMD3/RE3

## PIC32MZ2048EFG100
designator U?
footprint TQFP-100 0.5mm
footprint TQFP-100 0.4mm
pins: 1 AN23/AERXERR/RG15, 2 EBIA5/AN34/PMA5/RA5, 3 EBID5/AN17/RPE5/PMD5/RE5, 4 EBID6/AN16/PMD6/RE6, 5 EBID7/AN15/PMD7/RE7, 6 EBIA6/AN22/RPC1/PMA6/RC1, 7 EBIA12/AN21/RPC2/PMA12/RC2, 8 EBIWE/AN20/RPC3/PMWR/RC3, 9 EBIOE/AN19/RPC4/PMRD/RC4, 10 AN14/C1IND/ECOL/RPG6/SCK2/RG6, 11 EBIA4/AN13/C1INC/ECRS/RPG7/SDA4/PMA4/RG7, 12 EBIA3/AN12/C2IND/ERXDV/ECRSDV/AERXDV/AECRSDV/RPG8/SCL4/PMA3/RG8, 13 VSS, 14 VDD, 15 MCLR, 16 EBIA2/AN11/C2INC/ERXCLK/EREFCLK/AERXCLK/AEREFCLK/RPG9/PMA2/RG9, 17 TMS/EBIA16/AN24/RA0, 18 AN25/AERXD0/RPE8/RE8, 19 AN26/AERXD1/RPE9/RE9, 20 AN45/C1INA/RPB5/RB5, 21 AN4/C1INB/RB4, 22 AN3/C2INA/RPB3/RB3, 23 AN2/C2INB/RPB2/RB2, 24 PGEC1/AN1/RPB1/RB1, 25 PGED1/AN0/RPB0/RB0, 26 PGEC2/AN46/RPB6/RB6, 27 PGED2/AN47/RPB7/RB7, 28 VREF-/CVREF-/AN27/AERXD2/RA9, 29 VREF+/CVREF+/AN28/AERXD3/RA10, 30 AVDD, 31 AVSS, 32 EBIA10/AN48/RPB8/PMA10/RB8, 33 EBIA7/AN49/RPB9/PMA7/RB9, 34 EBIA13/CVREFOUT/AN5/RPB10/PMA13/RB10, 35 AN6/ERXERR/AETXERR/RB11, 36 VSS, 37 VDD, 38 TCK/EBIA19/AN29/RA1, 39 TDI/EBIA18/AN30/RPF13/SCK5/RF13, 40 TDO/EBIA17/AN31/RPF12/RF12, 41 EBIA11/AN7/ERXD0/AECRS/PMA11/RB12, 42 AN8/ERXD1/AECOL/RB13, 43 EBIA1/AN9/ERXD2/AETXD3/RPB14/SCK3/PMA1/RB14, 44 EBIA0/AN10/ERXD3/AETXD2/RPB15/OCFB/PMA0/RB15, 45 VSS, 46 VDD, 47 AN32/AETXD0/RPD14/RD14, 48 AN33/AETXD1/RPD15/SCK6/RD15, 49 OSC1/CLKI/RC12, 50 OSC2/CLKO/RC15, 51 VBUS, 52 VUSB3V3, 53 VSS, 54 D-, 55 D+, 56 RPF3/USBID/RF3, 57 EBIRDY3/RPF2/SDA3/RF2, 58 EBIRDY2/RPF8/SCL3/RF8, 59 EBICS0/SCL2/RA2, 60 EBIRDY1/SDA2/RA3, 61 EBIA14/PMCS1/PMA14/RA4, 62 VDD, 63 VSS, 64 EBIA9/RPF4/SDA5/PMA9/RF4, 65 EBIA8/RPF5/SCL5/PMA8/RF5, 66 AETXCLK/RPA14/SCL1/RA14, 67 AETXEN/RPA15/SDA1/RA15, 68 EBIA15/RPD9/PMCS2/PMA15/RD9, 69 RPD10/SCK4/RD10, 70 EMDC/AEMDC/RPD11/RD11, 71 EMDIO/AEMDIO/RPD0/RTCC/INT0/RD0, 72 SOSCI/RPC13/RC13, 73 SOSCO/RPC14/T1CK/RC14, 74 VDD, 75 VSS, 76 RPD1/SCK1/RD1, 77 EBID14/ETXEN/RPD2/PMD14/RD2, 78 EBID15/ETXCLK/RPD3/PMD15/RD3, 79 EBID12/ETXD2/RPD12/PMD12/RD12, 80 EBID13/ETXD3/PMD13/RD13, 81 SQICS0/RPD4/RD4, 82 SQICS1/RPD5/RD5, 83 VDD, 84 VSS, 85 EBID11/ETXD1/RPF0/PMD11/RF0, 86 EBID10/ETXD0/RPF1/PMD10/RF1, 87 EBID9/ETXERR/RPG1/PMD9/RG1, 88 EBID8/RPG0/PMD8/RG0, 89 TRCLK/SQICLK/RA6, 90 TRD3/SQID3/RA7, 91 EBID0/PMD0/RE0, 92 VSS, 93 VDD, 94 EBID1/PMD1/RE1, 95 TRD2/SQID2/RG14, 96 TRD1/SQID1/RG12, 97 TRD0/SQID0/RG13, 98 EBID2/PMD2/RE2, 99 EBID3/RPE3/PMD3/RE3, 100 EBID4/AN18/PMD4/RE4

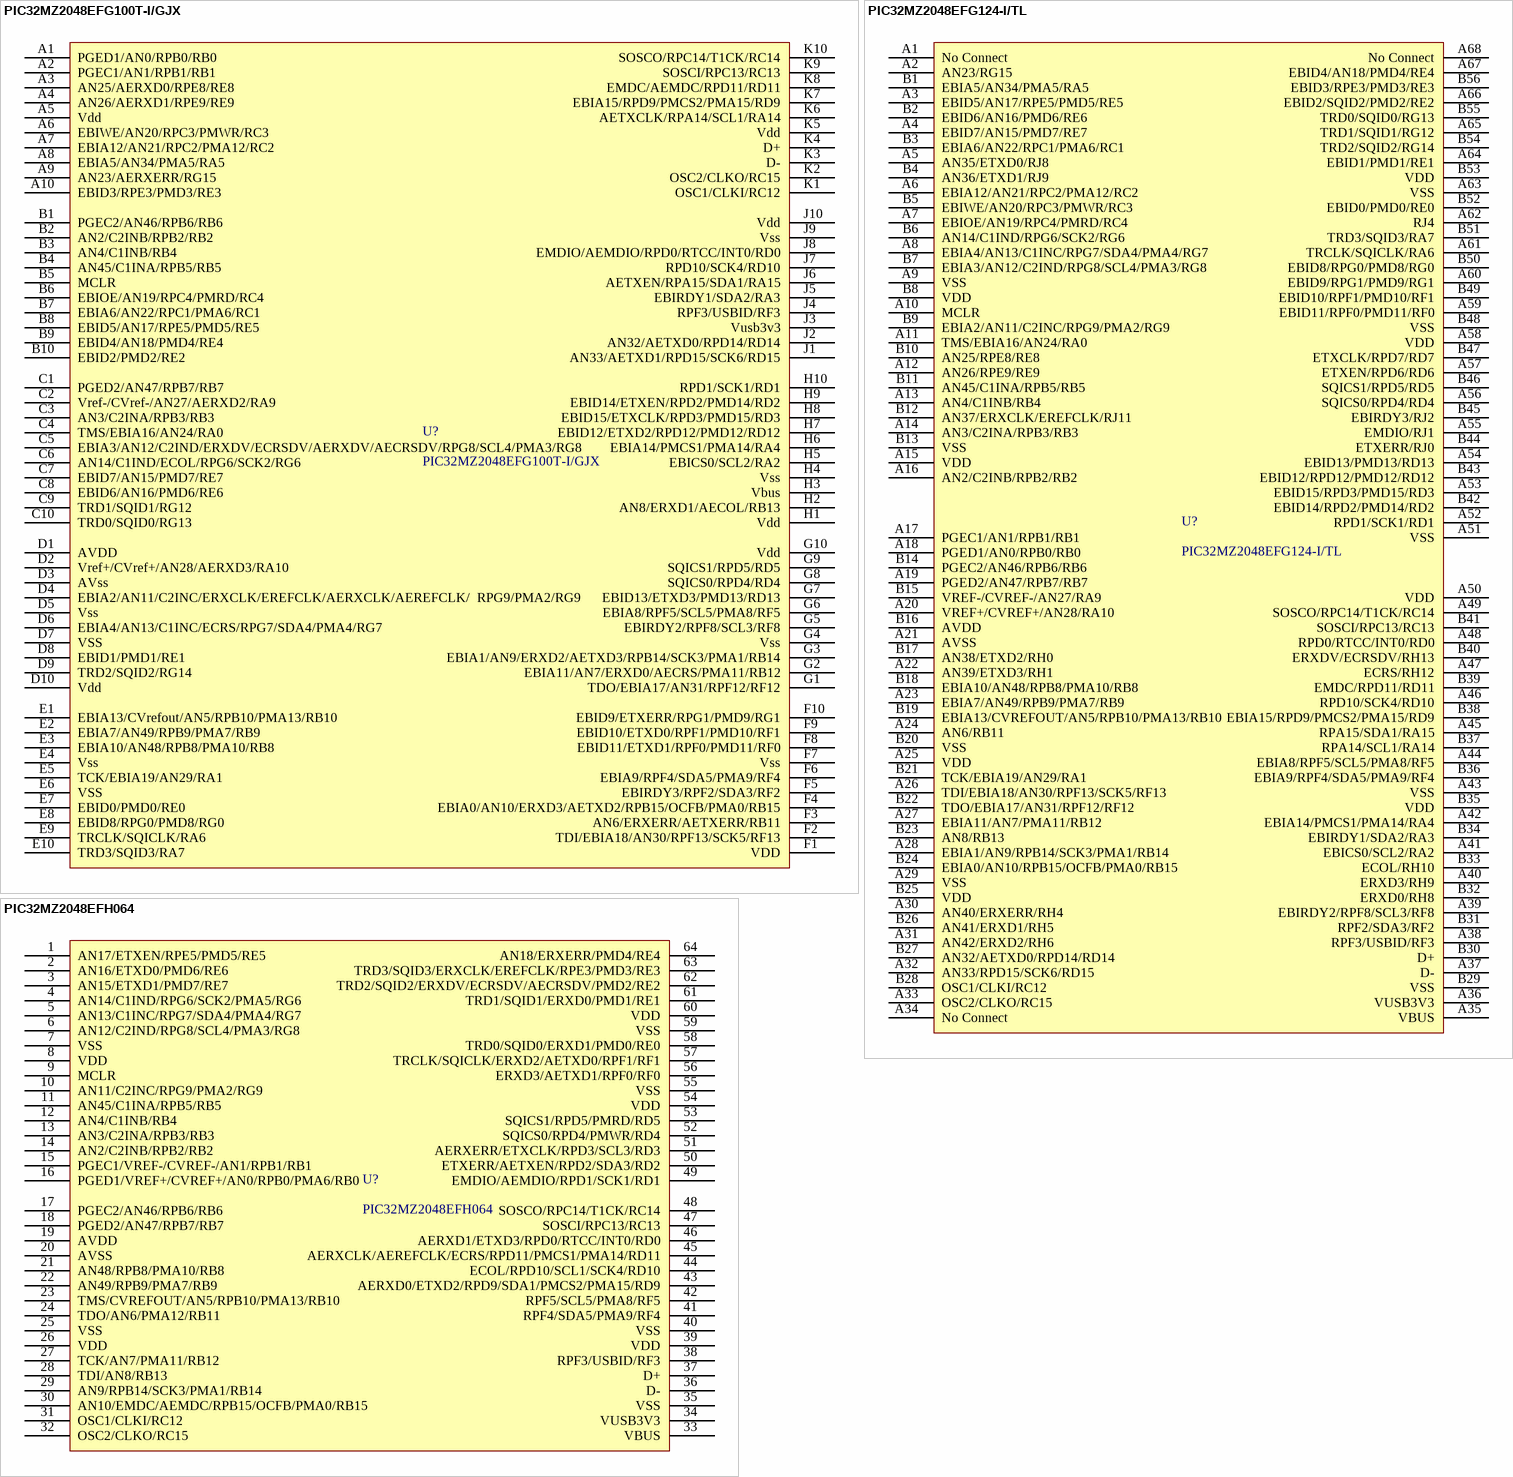
[diagram p5: symbols PIC32MZ2048EFG100T-I/GJX to PIC32MZ2048EFH064]

## PIC32MZ2048EFG100T-I/GJX
designator U?
footprint TFBGA-100
pins: A1 PGED1/AN0/RPB0/RB0, A2 PGEC1/AN1/RPB1/RB1, A3 AN25/AERXD0/RPE8/RE8, A4 AN26/AERXD1/RPE9/RE9, A5 Vdd, A6 EBIWE/AN20/RPC3/PMWR/RC3, A7 EBIA12/AN21/RPC2/PMA12/RC2, A8 EBIA5/AN34/PMA5/RA5, A9 AN23/AERXERR/RG15, A10 EBID3/RPE3/PMD3/RE3, B1 PGEC2/AN46/RPB6/RB6, B2 AN2/C2INB/RPB2/RB2, B3 AN4/C1INB/RB4, B4 AN45/C1INA/RPB5/RB5, B5 MCLR, B6 EBIOE/AN19/RPC4/PMRD/RC4, B7 EBIA6/AN22/RPC1/PMA6/RC1, B8 EBID5/AN17/RPE5/PMD5/RE5, B9 EBID4/AN18/PMD4/RE4, B10 EBID2/PMD2/RE2, C1 PGED2/AN47/RPB7/RB7, C2 Vref-/CVref-/AN27/AERXD2/RA9, C3 AN3/C2INA/RPB3/RB3, C4 TMS/EBIA16/AN24/RA0, C5 EBIA3/AN12/C2IND/ERXDV/ECRSDV/AERXDV/AECRSDV/RPG8/SCL4/PMA3/RG8, C6 AN14/C1IND/ECOL/RPG6/SCK2/RG6, C7 EBID7/AN15/PMD7/RE7, C8 EBID6/AN16/PMD6/RE6, C9 TRD1/SQID1/RG12, C10 TRD0/SQID0/RG13, D1 AVDD, D2 Vref+/CVref+/AN28/AERXD3/RA10, D3 AVss, D4 EBIA2/AN11/C2INC/ERXCLK/EREFCLK/AERXCLK/AEREFCLK/  RPG9/PMA2/RG9, D5 Vss, D6 EBIA4/AN13/C1INC/ECRS/RPG7/SDA4/PMA4/RG7, D7 VSS, D8 EBID1/PMD1/RE1, D9 TRD2/SQID2/RG14, D10 Vdd, E1 EBIA13/CVrefout/AN5/RPB10/PMA13/RB10, E2 EBIA7/AN49/RPB9/PMA7/RB9, E3 EBIA10/AN48/RPB8/PMA10/RB8, E4 Vss, E5 TCK/EBIA19/AN29/RA1, E6 VSS, E7 EBID0/PMD0/RE0, E8 EBID8/RPG0/PMD8/RG0, E9 TRCLK/SQICLK/RA6, E10 TRD3/SQID3/RA7, F1 VDD, F2 TDI/EBIA18/AN30/RPF13/SCK5/RF13, F3 AN6/ERXERR/AETXERR/RB11, F4 EBIA0/AN10/ERXD3/AETXD2/RPB15/OCFB/PMA0/RB15, F5 EBIRDY3/RPF2/SDA3/RF2, F6 EBIA9/RPF4/SDA5/PMA9/RF4, F7 Vss, F8 EBID11/ETXD1/RPF0/PMD11/RF0, F9 EBID10/ETXD0/RPF1/PMD10/RF1, F10 EBID9/ETXERR/RPG1/PMD9/RG1, G1 TDO/EBIA17/AN31/RPF12/RF12, G2 EBIA11/AN7/ERXD0/AECRS/PMA11/RB12, G3 EBIA1/AN9/ERXD2/AETXD3/RPB14/SCK3/PMA1/RB14, G4 Vss, G5 EBIRDY2/RPF8/SCL3/RF8, G6 EBIA8/RPF5/SCL5/PMA8/RF5, G7 EBID13/ETXD3/PMD13/RD13, G8 SQICS0/RPD4/RD4, G9 SQICS1/RPD5/RD5, G10 Vdd, H1 Vdd, H2 AN8/ERXD1/AECOL/RB13, H3 Vbus, H4 Vss, H5 EBICS0/SCL2/RA2, H6 EBIA14/PMCS1/PMA14/RA4, H7 EBID12/ETXD2/RPD12/PMD12/RD12, H8 EBID15/ETXCLK/RPD3/PMD15/RD3, H9 EBID14/ETXEN/RPD2/PMD14/RD2, H10 RPD1/SCK1/RD1, J1 AN33/AETXD1/RPD15/SCK6/RD15, J2 AN32/AETXD0/RPD14/RD14, J3 Vusb3v3, J4 RPF3/USBID/RF3, J5 EBIRDY1/SDA2/RA3, J6 AETXEN/RPA15/SDA1/RA15, J7 RPD10/SCK4/RD10, J8 EMDIO/AEMDIO/RPD0/RTCC/INT0/RD0, J9 Vss, J10 Vdd, K1 OSC1/CLKI/RC12, K2 OSC2/CLKO/RC15, K3 D-, K4 D+, K5 Vdd, K6 AETXCLK/RPA14/SCL1/RA14, K7 EBIA15/RPD9/PMCS2/PMA15/RD9, K8 EMDC/AEMDC/RPD11/RD11, K9 SOSCI/RPC13/RC13, K10 SOSCO/RPC14/T1CK/RC14

## PIC32MZ2048EFG124-I/TL
designator U?
footprint VTLA-124
pins: A1 No Connect, A2 AN23/RG15, A3 EBID5/AN17/RPE5/PMD5/RE5, A4 EBID7/AN15/PMD7/RE7, A5 AN35/ETXD0/RJ8, A6 EBIA12/AN21/RPC2/PMA12/RC2, A7 EBIOE/AN19/RPC4/PMRD/RC4, A8 EBIA4/AN13/C1INC/RPG7/SDA4/PMA4/RG7, A9 VSS, A10 MCLR, A11 TMS/EBIA16/AN24/RA0, A12 AN26/RPE9/RE9, A13 AN4/C1INB/RB4, A14 AN3/C2INA/RPB3/RB3, A15 VDD, A16 AN2/C2INB/RPB2/RB2, A17 PGEC1/AN1/RPB1/RB1, A18 PGED1/AN0/RPB0/RB0, A19 PGED2/AN47/RPB7/RB7, A20 VREF+/CVREF+/AN28/RA10, A21 AVSS, A22 AN39/ETXD3/RH1, A23 EBIA7/AN49/RPB9/PMA7/RB9, A24 AN6/RB11, A25 VDD, A26 TDI/EBIA18/AN30/RPF13/SCK5/RF13, A27 EBIA11/AN7/PMA11/RB12, A28 EBIA1/AN9/RPB14/SCK3/PMA1/RB14, A29 VSS, A30 AN40/ERXERR/RH4, A31 AN42/ERXD2/RH6, A32 AN33/RPD15/SCK6/RD15, A33 OSC2/CLKO/RC15, A34 No Connect, A35 VBUS, A36 VUSB3V3, A37 D-, A38 RPF3/USBID/RF3, A39 EBIRDY2/RPF8/SCL3/RF8, A40 ERXD3/RH9, A41 EBICS0/SCL2/RA2, A42 EBIA14/PMCS1/PMA14/RA4, A43 VSS, A44 EBIA8/RPF5/SCL5/PMA8/RF5, A45 RPA15/SDA1/RA15, A46 RPD10/SCK4/RD10, A47 ECRS/RH12, A48 RPD0/RTCC/INT0/RD0, A49 SOSCO/RPC14/T1CK/RC14, A50 VDD, A51 VSS, A52 RPD1/SCK1/RD1, A53 EBID15/RPD3/PMD15/RD3, A54 EBID13/PMD13/RD13, A55 EMDIO/RJ1, A56 SQICS0/RPD4/RD4, A57 ETXEN/RPD6/RD6, A58 VDD, A59 EBID11/RPF0/PMD11/RF0, A60 EBID9/RPG1/PMD9/RG1, A61 TRCLK/SQICLK/RA6, A62 RJ4, A63 VSS, A64 EBID1/PMD1/RE1, A65 TRD1/SQID1/RG12, A66 EBID2/SQID2/PMD2/RE2, A67 EBID4/AN18/PMD4/RE4, A68 No Connect, B1 EBIA5/AN34/PMA5/RA5, B2 EBID6/AN16/PMD6/RE6, B3 EBIA6/AN22/RPC1/PMA6/RC1, B4 AN36/ETXD1/RJ9, B5 EBIWE/AN20/RPC3/PMWR/RC3, B6 AN14/C1IND/RPG6/SCK2/RG6, B7 EBIA3/AN12/C2IND/RPG8/SCL4/PMA3/RG8, B8 VDD, B9 EBIA2/AN11/C2INC/RPG9/PMA2/RG9, B10 AN25/RPE8/RE8, B11 AN45/C1INA/RPB5/RB5, B12 AN37/ERXCLK/EREFCLK/RJ11, B13 VSS, B14 PGEC2/AN46/RPB6/RB6, B15 VREF-/CVREF-/AN27/RA9, B16 AVDD, B17 AN38/ETXD2/RH0, B18 EBIA10/AN48/RPB8/PMA10/RB8, B19 EBIA13/CVREFOUT/AN5/RPB10/PMA13/RB10, B20 VSS, B21 TCK/EBIA19/AN29/RA1, B22 TDO/EBIA17/AN31/RPF12/RF12, B23 AN8/RB13, B24 EBIA0/AN10/RPB15/OCFB/PMA0/RB15, B25 VDD, B26 AN41/ERXD1/RH5, B27 AN32/AETXD0/RPD14/RD14, B28 OSC1/CLKI/RC12, B29 VSS, B30 D+, B31 RPF2/SDA3/RF2, B32 ERXD0/RH8, B33 ECOL/RH10, B34 EBIRDY1/SDA2/RA3, B35 VDD, B36 EBIA9/RPF4/SDA5/PMA9/RF4, B37 RPA14/SCL1/RA14, B38 EBIA15/RPD9/PMCS2/PMA15/RD9, B39 EMDC/RPD11/RD11, B40 ERXDV/ECRSDV/RH13, B41 SOSCI/RPC13/RC13, B42 EBID14/RPD2/PMD14/RD2, B43 EBID12/RPD12/PMD12/RD12, B44 ETXERR/RJ0, B45 EBIRDY3/RJ2, B46 SQICS1/RPD5/RD5, B47 ETXCLK/RPD7/RD7, B48 VSS, B49 EBID10/RPF1/PMD10/RF1, B50 EBID8/RPG0/PMD8/RG0, B51 TRD3/SQID3/RA7, B52 EBID0/PMD0/RE0, B53 VDD, B54 TRD2/SQID2/RG14, B55 TRD0/SQID0/RG13, B56 EBID3/RPE3/PMD3/RE3

## PIC32MZ2048EFH064
designator U?
footprint TQFP-64
footprint QFN-64
pins: 1 AN17/ETXEN/RPE5/PMD5/RE5, 2 AN16/ETXD0/PMD6/RE6, 3 AN15/ETXD1/PMD7/RE7, 4 AN14/C1IND/RPG6/SCK2/PMA5/RG6, 5 AN13/C1INC/RPG7/SDA4/PMA4/RG7, 6 AN12/C2IND/RPG8/SCL4/PMA3/RG8, 7 VSS, 8 VDD, 9 MCLR, 10 AN11/C2INC/RPG9/PMA2/RG9, 11 AN45/C1INA/RPB5/RB5, 12 AN4/C1INB/RB4, 13 AN3/C2INA/RPB3/RB3, 14 AN2/C2INB/RPB2/RB2, 15 PGEC1/VREF-/CVREF-/AN1/RPB1/RB1, 16 PGED1/VREF+/CVREF+/AN0/RPB0/PMA6/RB0, 17 PGEC2/AN46/RPB6/RB6, 18 PGED2/AN47/RPB7/RB7, 19 AVDD, 20 AVSS, 21 AN48/RPB8/PMA10/RB8, 22 AN49/RPB9/PMA7/RB9, 23 TMS/CVREFOUT/AN5/RPB10/PMA13/RB10, 24 TDO/AN6/PMA12/RB11, 25 VSS, 26 VDD, 27 TCK/AN7/PMA11/RB12, 28 TDI/AN8/RB13, 29 AN9/RPB14/SCK3/PMA1/RB14, 30 AN10/EMDC/AEMDC/RPB15/OCFB/PMA0/RB15, 31 OSC1/CLKI/RC12, 32 OSC2/CLKO/RC15, 33 VBUS, 34 VUSB3V3, 35 VSS, 36 D-, 37 D+, 38 RPF3/USBID/RF3, 39 VDD, 40 VSS, 41 RPF4/SDA5/PMA9/RF4, 42 RPF5/SCL5/PMA8/RF5, 43 AERXD0/ETXD2/RPD9/SDA1/PMCS2/PMA15/RD9, 44 ECOL/RPD10/SCL1/SCK4/RD10, 45 AERXCLK/AEREFCLK/ECRS/RPD11/PMCS1/PMA14/RD11, 46 AERXD1/ETXD3/RPD0/RTCC/INT0/RD0, 47 SOSCI/RPC13/RC13, 48 SOSCO/RPC14/T1CK/RC14, 49 EMDIO/AEMDIO/RPD1/SCK1/RD1, 50 ETXERR/AETXEN/RPD2/SDA3/RD2, 51 AERXERR/ETXCLK/RPD3/SCL3/RD3, 52 SQICS0/RPD4/PMWR/RD4, 53 SQICS1/RPD5/PMRD/RD5, 54 VDD, 55 VSS, 56 ERXD3/AETXD1/RPF0/RF0, 57 TRCLK/SQICLK/ERXD2/AETXD0/RPF1/RF1, 58 TRD0/SQID0/ERXD1/PMD0/RE0, 59 VSS, 60 VDD, 61 TRD1/SQID1/ERXD0/PMD1/RE1, 62 TRD2/SQID2/ERXDV/ECRSDV/AECRSDV/PMD2/RE2, 63 TRD3/SQID3/ERXCLK/EREFCLK/RPE3/PMD3/RE3, 64 AN18/ERXERR/PMD4/RE4

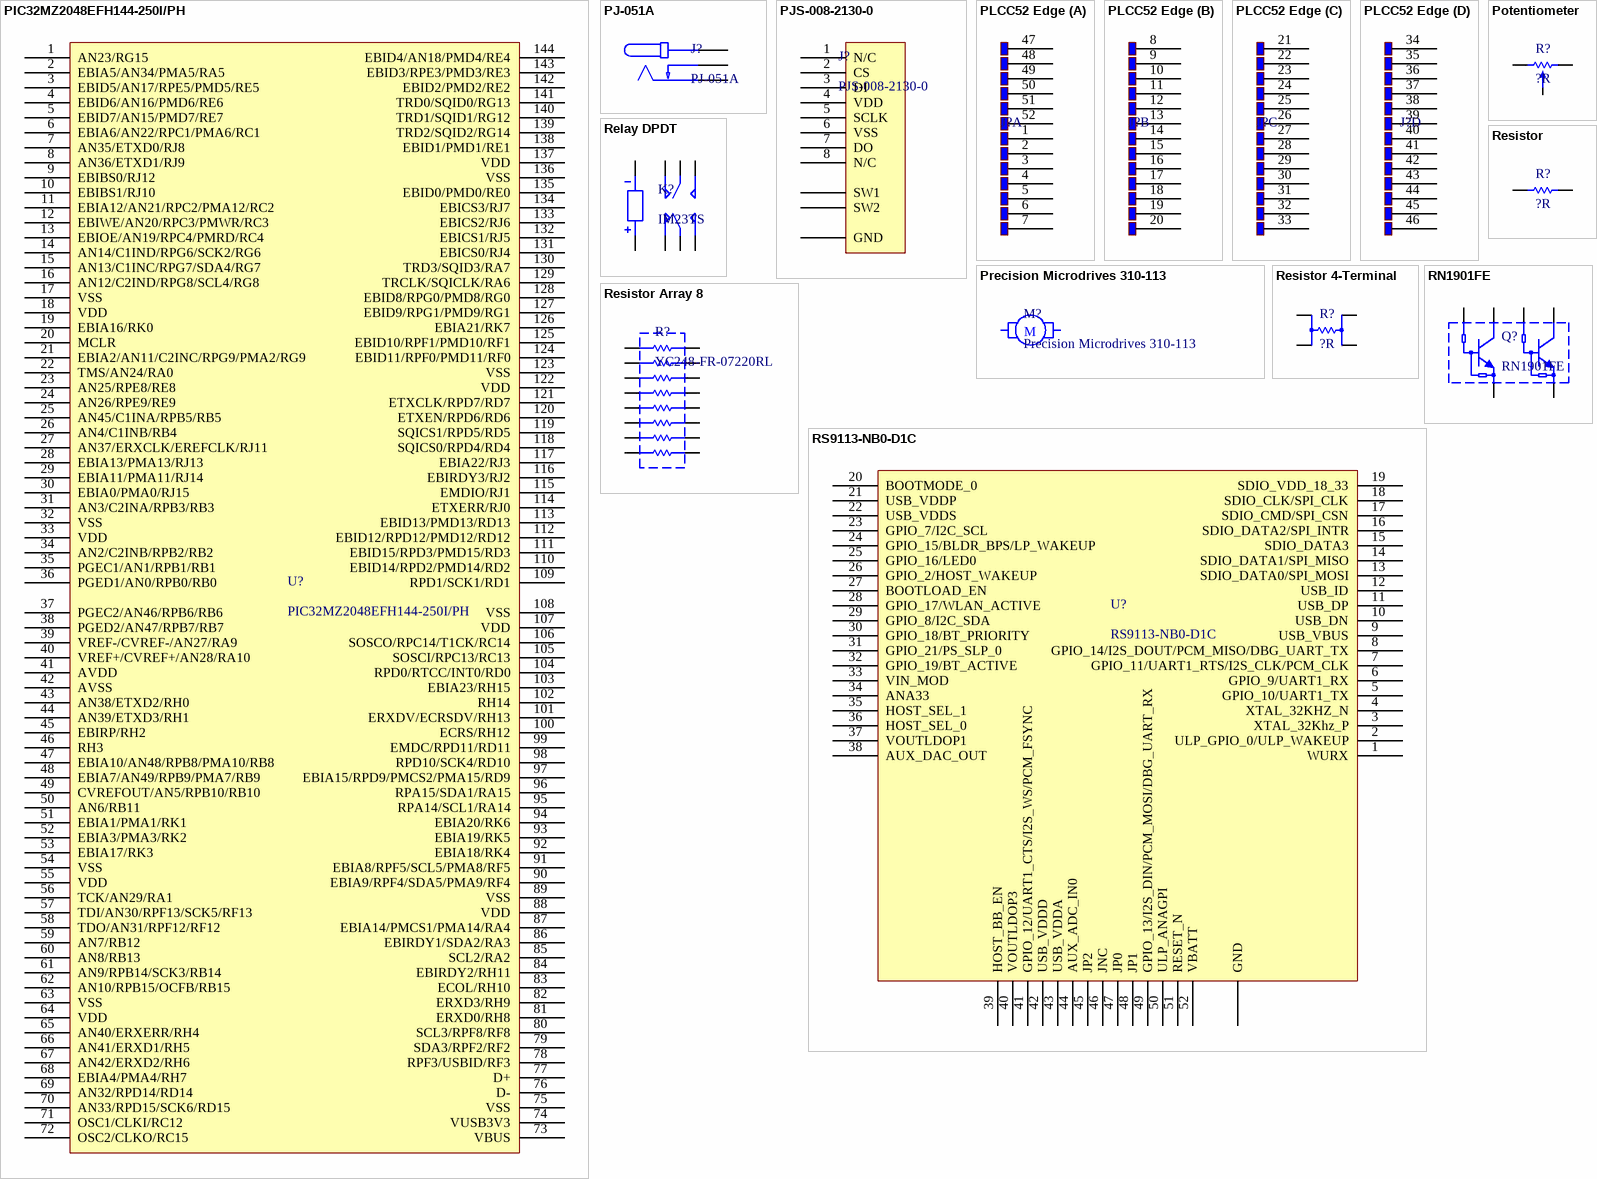
[diagram p6: symbols PIC32MZ2048EFH144-250I/PH to RS9113-NB0-D1C]

## PIC32MZ2048EFH144-250I/PH
designator U?
footprint TQFP-144 0.4mm
pins: 1 AN23/RG15, 2 EBIA5/AN34/PMA5/RA5, 3 EBID5/AN17/RPE5/PMD5/RE5, 4 EBID6/AN16/PMD6/RE6, 5 EBID7/AN15/PMD7/RE7, 6 EBIA6/AN22/RPC1/PMA6/RC1, 7 AN35/ETXD0/RJ8, 8 AN36/ETXD1/RJ9, 9 EBIBS0/RJ12, 10 EBIBS1/RJ10, 11 EBIA12/AN21/RPC2/PMA12/RC2, 12 EBIWE/AN20/RPC3/PMWR/RC3, 13 EBIOE/AN19/RPC4/PMRD/RC4, 14 AN14/C1IND/RPG6/SCK2/RG6, 15 AN13/C1INC/RPG7/SDA4/RG7, 16 AN12/C2IND/RPG8/SCL4/RG8, 17 VSS, 18 VDD, 19 EBIA16/RK0, 20 MCLR, 21 EBIA2/AN11/C2INC/RPG9/PMA2/RG9, 22 TMS/AN24/RA0, 23 AN25/RPE8/RE8, 24 AN26/RPE9/RE9, 25 AN45/C1INA/RPB5/RB5, 26 AN4/C1INB/RB4, 27 AN37/ERXCLK/EREFCLK/RJ11, 28 EBIA13/PMA13/RJ13, 29 EBIA11/PMA11/RJ14, 30 EBIA0/PMA0/RJ15, 31 AN3/C2INA/RPB3/RB3, 32 VSS, 33 VDD, 34 AN2/C2INB/RPB2/RB2, 35 PGEC1/AN1/RPB1/RB1, 36 PGED1/AN0/RPB0/RB0, 37 PGEC2/AN46/RPB6/RB6, 38 PGED2/AN47/RPB7/RB7, 39 VREF-/CVREF-/AN27/RA9, 40 VREF+/CVREF+/AN28/RA10, 41 AVDD, 42 AVSS, 43 AN38/ETXD2/RH0, 44 AN39/ETXD3/RH1, 45 EBIRP/RH2, 46 RH3, 47 EBIA10/AN48/RPB8/PMA10/RB8, 48 EBIA7/AN49/RPB9/PMA7/RB9, 49 CVREFOUT/AN5/RPB10/RB10, 50 AN6/RB11, 51 EBIA1/PMA1/RK1, 52 EBIA3/PMA3/RK2, 53 EBIA17/RK3, 54 VSS, 55 VDD, 56 TCK/AN29/RA1, 57 TDI/AN30/RPF13/SCK5/RF13, 58 TDO/AN31/RPF12/RF12, 59 AN7/RB12, 60 AN8/RB13, 61 AN9/RPB14/SCK3/RB14, 62 AN10/RPB15/OCFB/RB15, 63 VSS, 64 VDD, 65 AN40/ERXERR/RH4, 66 AN41/ERXD1/RH5, 67 AN42/ERXD2/RH6, 68 EBIA4/PMA4/RH7, 69 AN32/RPD14/RD14, 70 AN33/RPD15/SCK6/RD15, 71 OSC1/CLKI/RC12, 72 OSC2/CLKO/RC15, 73 VBUS, 74 VUSB3V3, 75 VSS, 76 D-, 77 D+, 78 RPF3/USBID/RF3, 79 SDA3/RPF2/RF2, 80 SCL3/RPF8/RF8, 81 ERXD0/RH8, 82 ERXD3/RH9, 83 ECOL/RH10, 84 EBIRDY2/RH11, 85 SCL2/RA2, 86 EBIRDY1/SDA2/RA3, 87 EBIA14/PMCS1/PMA14/RA4, 88 VDD, 89 VSS, 90 EBIA9/RPF4/SDA5/PMA9/RF4, 91 EBIA8/RPF5/SCL5/PMA8/RF5, 92 EBIA18/RK4, 93 EBIA19/RK5, 94 EBIA20/RK6, 95 RPA14/SCL1/RA14, 96 RPA15/SDA1/RA15, 97 EBIA15/RPD9/PMCS2/PMA15/RD9, 98 RPD10/SCK4/RD10, 99 EMDC/RPD11/RD11, 100 ECRS/RH12, 101 ERXDV/ECRSDV/RH13, 102 RH14, 103 EBIA23/RH15, 104 RPD0/RTCC/INT0/RD0, 105 SOSCI/RPC13/RC13, 106 SOSCO/RPC14/T1CK/RC14, 107 VDD, 108 VSS, 109 RPD1/SCK1/RD1, 110 EBID14/RPD2/PMD14/RD2, 111 EBID15/RPD3/PMD15/RD3, 112 EBID12/RPD12/PMD12/RD12, 113 EBID13/PMD13/RD13, 114 ETXERR/RJ0, 115 EMDIO/RJ1, 116 EBIRDY3/RJ2, 117 EBIA22/RJ3, 118 SQICS0/RPD4/RD4, 119 SQICS1/RPD5/RD5, 120 ETXEN/RPD6/RD6, 121 ETXCLK/RPD7/RD7, 122 VDD, 123 VSS, 124 EBID11/RPF0/PMD11/RF0, 125 EBID10/RPF1/PMD10/RF1, 126 EBIA21/RK7, 127 EBID9/RPG1/PMD9/RG1, 128 EBID8/RPG0/PMD8/RG0, 129 TRCLK/SQICLK/RA6, 130 TRD3/SQID3/RA7, 131 EBICS0/RJ4, 132 EBICS1/RJ5, 133 EBICS2/RJ6, 134 EBICS3/RJ7, 135 EBID0/PMD0/RE0, 136 VSS, 137 VDD, 138 EBID1/PMD1/RE1, 139 TRD2/SQID2/RG14, 140 TRD1/SQID1/RG12, 141 TRD0/SQID0/RG13, 142 EBID2/PMD2/RE2, 143 EBID3/RPE3/PMD3/RE3, 144 EBID4/AN18/PMD4/RE4

## PJ-051A
designator J?
footprint PJ-051A
pins: 1, 2, 3

## PJS-008-2130-0
designator J?
footprint PJS-008-2130-0
pins: 1 N/C, 2 CS, 3 DI, 4 VDD, 5 SCLK, 6 VSS, 7 DO, 8 N/C, GND, SW1, SW2

## PLCC52 Edge
designator J?  (value not drawn)
footprint PLCC52 Edge
part A pins: 1, 2, 3, 4, 5, 6, 7, 47, 48, 49, 50, 51, 52
part B pins: 8, 9, 10, 11, 12, 13, 14, 15, 16, 17, 18, 19, 20
part C pins: 21, 22, 23, 24, 25, 26, 27, 28, 29, 30, 31, 32, 33
part D pins: 34, 35, 36, 37, 38, 39, 40, 41, 42, 43, 44, 45, 46

## Potentiometer
designator R?, comment ?R
footprint RV09ACF-40
footprint 3296W
footprint 3269W
pins: 1, 2, 3

## Precision Microdrives 310-113
designator M?
footprint Precision Microdrives 310-113
text: M

## Relay DPDT
designator K?, comment IM23TS
footprint IM23TS
pins: 1 *, 2 *, 3 *, 4 *, 5 *, 6 *, 7 *, 8 *

## Resistor
designator R?, comment ?R
footprint Resistor 0402
footprint Resistor 0603
footprint Resistor 0805
footprint Resistor 1206
footprint Resistor 0201
pins: 1, 2

## Resistor 4-Terminal
designator R?, comment ?R
footprint LVK12
pins: I1, I2, V1, V2

## Resistor Array 8
designator R?, comment YC248-FR-07220RL
footprint YC248
pins: 1, 2, 3, 4, 5, 6, 7, 8, 9, 10, 11, 12, 13, 14, 15, 16

## RN1901FE
designator Q?
footprint SOT-666
pins: 1 E1, 2 B1, 3 C2, 4 E2, 5 B2, 6 C1

## RS9113-NB0-D1C
designator U?
footprint RS9113-NB0-D1C
pins: 1 WURX, 2 ULP_GPIO_0/ULP_WAKEUP, 3 XTAL_32Khz_P, 4 XTAL_32KHZ_N, 5 GPIO_10/UART1_TX, 6 GPIO_9/UART1_RX, 7 GPIO_11/UART1_RTS/I2S_CLK/PCM_CLK, 8 GPIO_14/I2S_DOUT/PCM_MISO/DBG_UART_TX, 9 USB_VBUS, 10 USB_DN, 11 USB_DP, 12 USB_ID, 13 SDIO_DATA0/SPI_MOSI, 14 SDIO_DATA1/SPI_MISO, 15 SDIO_DATA3, 16 SDIO_DATA2/SPI_INTR, 17 SDIO_CMD/SPI_CSN, 18 SDIO_CLK/SPI_CLK, 19 SDIO_VDD_18_33, 20 BOOTMODE_0, 21 USB_VDDP, 22 USB_VDDS, 23 GPIO_7/I2C_SCL, 24 GPIO_15/BLDR_BPS/LP_WAKEUP, 25 GPIO_16/LED0, 26 GPIO_2/HOST_WAKEUP, 27 BOOTLOAD_EN, 28 GPIO_17/WLAN_ACTIVE, 29 GPIO_8/I2C_SDA, 30 GPIO_18/BT_PRIORITY, 31 GPIO_21/PS_SLP_0, 32 GPIO_19/BT_ACTIVE, 33 VIN_MOD, 34 ANA33, 35 HOST_SEL_1, 36 HOST_SEL_0, 37 VOUTLDOP1, 38 AUX_DAC_OUT, 39 HOST_BB_EN, 40 VOUTLDOP3, 41 GPIO_12/UART1_CTS/I2S_WS/PCM_FSYNC, 42 USB_VDDD, 43 USB_VDDA, 44 AUX_ADC_IN0, 45 JP2, 46 JNC, 47 JP0, 48 JP1, 49 GPIO_13/I2S_DIN/PCM_MOSI/DBG_UART_RX, 50 ULP_ANAGPI, 51 RESET_N, 52 VBATT, GND

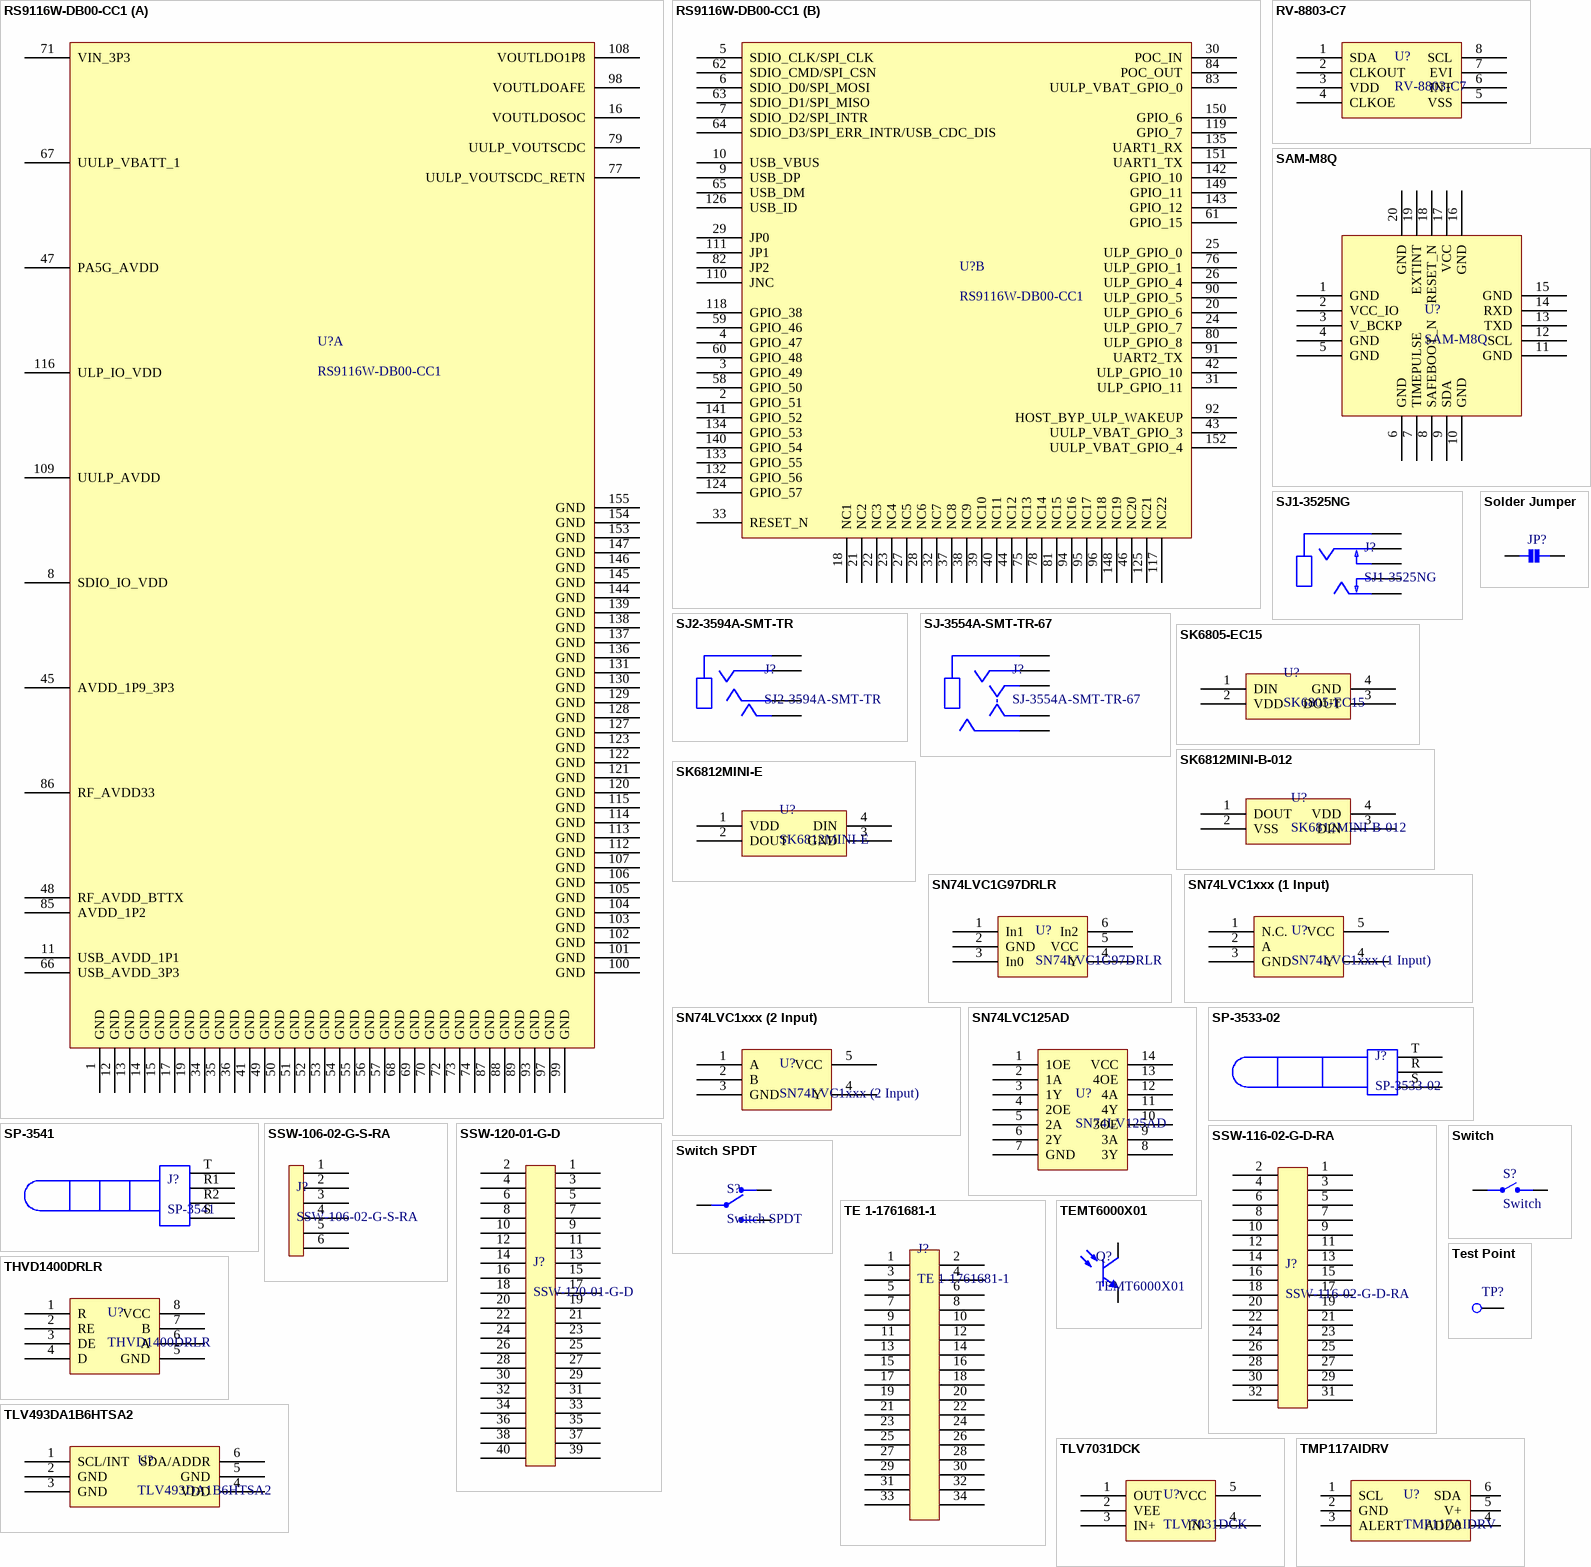
[diagram p7: symbols RS9116W-DB00-CC1 to TMP117AIDRV]

## RS9116W-DB00-CC1
designator U?
footprint RS9116W-DB00-CC1
part A pins: 1 GND, 8 SDIO_IO_VDD, 11 USB_AVDD_1P1, 12 GND, 13 GND, 14 GND, 15 GND, 16 VOUTLDOSOC, 17 GND, 19 GND, 34 GND, 35 GND, 36 GND, 41 GND, 45 AVDD_1P9_3P3, 47 PA5G_AVDD, 48 RF_AVDD_BTTX, 49 GND, 50 GND, 51 GND, 52 GND, 53 GND, 54 GND, 55 GND, 56 GND, 57 GND, 66 USB_AVDD_3P3, 67 UULP_VBATT_1, 68 GND, 69 GND, 70 GND, 71 VIN_3P3, 72 GND, 73 GND, 74 GND, 77 UULP_VOUTSCDC_RETN, 79 UULP_VOUTSCDC, 85 AVDD_1P2, 86 RF_AVDD33, 87 GND, 88 GND, 89 GND, 93 GND, 97 GND, 98 VOUTLDOAFE, 99 GND, 100 GND, 101 GND, 102 GND, 103 GND, 104 GND, 105 GND, 106 GND, 107 GND, 108 VOUTLDO1P8, 109 UULP_AVDD, 112 GND, 113 GND, 114 GND, 115 GND, 116 ULP_IO_VDD, 120 GND, 121 GND, 122 GND, 123 GND, 127 GND, 128 GND, 129 GND, 130 GND, 131 GND, 136 GND, 137 GND, 138 GND, 139 GND, 144 GND, 145 GND, 146 GND, 147 GND, 153 GND, 154 GND, 155 GND
part B pins: 2 GPIO_51, 3 GPIO_49, 4 GPIO_47, 5 SDIO_CLK/SPI_CLK, 6 SDIO_D0/SPI_MOSI, 7 SDIO_D2/SPI_INTR, 9 USB_DP, 10 USB_VBUS, 18 NC1, 20 ULP_GPIO_6, 21 NC2, 22 NC3, 23 NC4, 24 ULP_GPIO_7, 25 ULP_GPIO_0, 26 ULP_GPIO_4, 27 NC5, 28 NC6, 29 JP0, 30 POC_IN, 31 ULP_GPIO_11, 32 NC7, 33 RESET_N, 37 NC8, 38 NC9, 39 NC10, 40 NC11, 42 ULP_GPIO_10, 43 UULP_VBAT_GPIO_3, 44 NC12, 46 NC20, 58 GPIO_50, 59 GPIO_46, 60 GPIO_48, 61 GPIO_15, 62 SDIO_CMD/SPI_CSN, 63 SDIO_D1/SPI_MISO, 64 SDIO_D3/SPI_ERR_INTR/USB_CDC_DIS, 65 USB_DM, 75 NC13, 76 ULP_GPIO_1, 78 NC14, 80 ULP_GPIO_8, 81 NC15, 82 JP2, 83 UULP_VBAT_GPIO_0, 84 POC_OUT, 90 ULP_GPIO_5, 91 UART2_TX, 92 HOST_BYP_ULP_WAKEUP, 94 NC16, 95 NC17, 96 NC18, 110 JNC, 111 JP1, 117 NC22, 118 GPIO_38, 119 GPIO_7, 124 GPIO_57, 125 NC21, 126 USB_ID, 132 GPIO_56, 133 GPIO_55, 134 GPIO_53, 135 UART1_RX, 140 GPIO_54, 141 GPIO_52, 142 GPIO_10, 143 GPIO_12, 148 NC19, 149 GPIO_11, 150 GPIO_6, 151 UART1_TX, 152 UULP_VBAT_GPIO_4

## RV-8803-C7
designator U?
footprint Ceramic-8
pins: 1 SDA, 2 CLKOUT, 3 VDD, 4 CLKOE, 5 VSS, 6 INT, 7 EVI, 8 SCL

## SAM-M8Q
designator U?
footprint SAM-M8Q
pins: 1 GND, 2 VCC_IO, 3 V_BCKP, 4 GND, 5 GND, 6 GND, 7 TIMEPULSE, 8 SAFEBOOT_N, 9 SDA, 10 GND, 11 GND, 12 SCL, 13 TXD, 14 RXD, 15 GND, 16 GND, 17 VCC, 18 RESET_N, 19 EXTINT, 20 GND

## SJ1-3525NG
designator J?
footprint SJ1-3525NG
pins: 1 sleeve, 2 tip, 3 ring, 4 tip switch, 5 ring switch

## SJ2-3594A-SMT-TR
designator J?
footprint SJ2-3594A-SMT-TR
pins: 1 sleeve, 2 tip, 3 ring 1, 4 ring 2

## SJ-3554A-SMT-TR-67
designator J?
footprint SJ-3554A-SMT-TR-67
pins: 1 sleeve, 2 tip, 3 ring 1, 4 ring 2, 5 tip

## SK6805-EC15
designator U?
footprint SK6805-EC15
pins: 1 DIN, 2 VDD, 3 DOUT, 4 GND

## SK6812MINI-B-012
designator U?
footprint SK6812MINI-B-012
pins: 1 DOUT, 2 VSS, 3 DIN, 4 VDD

## SK6812MINI-E
designator U?
footprint SK6812MINI-E
pins: 1 VDD, 2 DOUT, 3 GND, 4 DIN

## SN74LVC1G97DRLR
designator U?
footprint SOT-666
pins: 1 In1, 2 GND, 3 In0, 4 Y, 5 VCC, 6 In2

## SN74LVC1xxx (1 Input)
designator U?
footprint SOT-665
footprint SOT-23-5
footprint SOT-323-5
pins: 1 N.C., 2 A, 3 GND, 4 Y, 5 VCC

## SN74LVC1xxx (2 Input)
designator U?
footprint SOT-665
footprint SOT-23-5
footprint SOT-323-5
pins: 1 A, 2 B, 3 GND, 4 Y, 5 VCC

## SN74LVC125AD
designator U?, comment SN74LV125AD
footprint SOIC-14
pins: 1 1OE, 2 1A, 3 1Y, 4 2OE, 5 2A, 6 2Y, 7 GND, 8 3Y, 9 3A, 10 3OE, 11 4Y, 12 4A, 13 4OE, 14 VCC

## Solder Jumper
designator JP?  (value not drawn)
footprint Solder Jumper
pins: 1, 2

## SP-3533-02
designator J?
footprint SP-3533-02
pins: R, S, T

## SP-3541
designator J?
footprint SP-3541
pins: R1, R2, S, T

## SSW-106-02-G-S-RA
designator J?
footprint SSW-106-02-G-S-RA
pins: 1, 2, 3, 4, 5, 6

## SSW-116-02-G-D-RA
designator J?
footprint SSW-116-02-G-D-RA
pins: 1, 2, 3, 4, 5, 6, 7, 8, 9, 10, 11, 12, 13, 14, 15, 16, 17, 18, 19, 20, 21, 22, 23, 24, 25, 26, 27, 28, 29, 30, 31, 32

## SSW-120-01-G-D
designator J?
footprint SSW-120-01-G-D
pins: 1, 2, 3, 4, 5, 6, 7, 8, 9, 10, 11, 12, 13, 14, 15, 16, 17, 18, 19, 20, 21, 22, 23, 24, 25, 26, 27, 28, 29, 30, 31, 32, 33, 34, 35, 36, 37, 38, 39, 40

## Switch
designator S?
footprint MX1A
footprint TL4105AF160QG
footprint SKRTLAE010
footprint PTS810SJS250SMTRLFS
footprint FSM4JHX
footprint FSM14JHX
footprint FSM16JHX
footprint B3U-1000P
footprint B3U-1000P-B
pins: 1, 2

## Switch SPDT
designator S?
footprint MHSS1104
footprint MHSS1105
pins: 1, 2, 3

## TE 1-1761681-1
designator J?
footprint TE 1-1761681-1
pins: 1 *, 2, 3, 4, 5, 6, 7, 8, 9, 10, 11, 12, 13, 14, 15, 16, 17, 18, 19, 20, 21, 22, 23, 24, 25, 26, 27, 28, 29, 30, 31, 32, 33, 34

## TEMT6000X01
designator Q?
footprint TEMT6000X01
pins: Collector, Emitter

## Test Point
designator TP?  (value not drawn)
footprint Test Point 1mm
footprint Test Point 1.5mm
footprint Keystone 5011
footprint Keystone 5010
footprint Keystone 5012
pins: 1

## THVD1400DRLR
designator U?
footprint SOT-583
pins: 1 R, 2 RE, 3 DE, 4 D, 5 GND, 6 A, 7 B, 8 VCC

## TLV493DA1B6HTSA2
designator U?
footprint SOT-23-6
pins: 1 SCL/INT, 2 GND, 3 GND, 4 VDD, 5 GND, 6 SDA/ADDR

## TLV7031DCK
designator U?
footprint SOT-23-5
footprint SOT-323-5
pins: 1 OUT, 2 VEE, 3 IN+, 4 IN-, 5 VCC

## TMP117AIDRV
designator U?
footprint WSON-6
pins: 1 SCL, 2 GND, 3 ALERT, 4 ADD0, 5 V+, 6 SDA

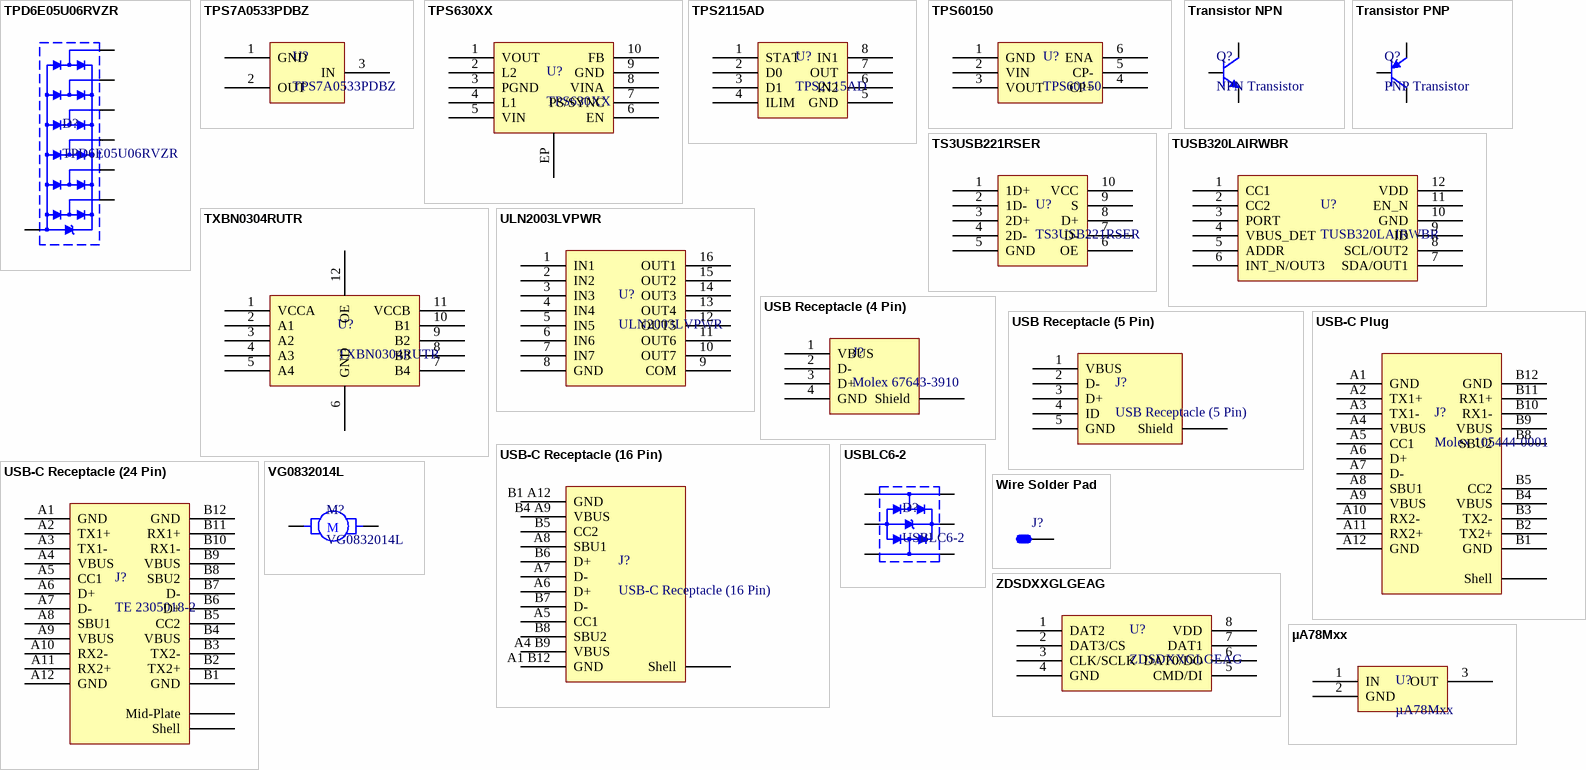
[diagram p8: symbols TPD6E05U06RVZR to µA78Mxx]

## TPD6E05U06RVZR
designator D?
footprint USON-14
pins: D1+, D1-, D2+, D2-, D3+, D3-, GND

## TPS7A0533PDBZ
designator U?
footprint SOT-23
pins: 1 GND, 2 OUT, 3 IN

## TPS630XX
designator U?
footprint VSON-10
footprint WSON-10
pins: 1 VOUT, 2 L2, 3 PGND, 4 L1, 5 VIN, 6 EN, 7 PS/SYNC, 8 VINA, 9 GND, 10 FB, EP

## TPS2115AD
designator U?
footprint TDFN-8 3x3mm
pins: 1 STAT, 2 D0, 3 D1, 4 ILIM, 5 GND, 6 IN2, 7 OUT, 8 IN1

## TPS60150
designator U?
footprint WSON-6
pins: 1 GND, 2 VIN, 3 VOUT, 4 CP+, 5 CP-, 6 ENA

## Transistor NPN
designator Q?, comment NPN Transistor
footprint TO-220; pin to pad 1>2 2>1
footprint SOT-223; pin to pad 1>2 2>1
footprint SOT-89; pin to pad 1>2 2>1
pins: 1 C, 2 B, 3 E

## Transistor PNP
designator Q?, comment PNP Transistor
footprint TO-220; pin to pad 1>2 2>1
footprint SOT-223; pin to pad 1>2 2>1
footprint SOT-89; pin to pad 1>2 2>1
pins: 1 C, 2 B, 3 E

## TS3USB221RSER
designator U?
footprint UQFN-10
pins: 1 1D+, 2 1D-, 3 2D+, 4 2D-, 5 GND, 6 OE, 7 D-, 8 D+, 9 S, 10 VCC

## TUSB320LAIRWBR
designator U?
footprint X2QFN-12
pins: 1 CC1, 2 CC2, 3 PORT, 4 VBUS_DET, 5 ADDR, 6 INT_N/OUT3, 7 SDA/OUT1, 8 SCL/OUT2, 9 ID, 10 GND, 11 EN_N, 12 VDD

## TXBN0304RUTR
designator U?
footprint TXBN0304RUTR
pins: 1 VCCA, 2 A1, 3 A2, 4 A3, 5 A4, 6 GND, 7 B4, 8 B3, 9 B2, 10 B1, 11 VCCB, 12 OE

## ULN2003LVPWR
designator U?
footprint TSSOP-16
pins: 1 IN1, 2 IN2, 3 IN3, 4 IN4, 5 IN5, 6 IN6, 7 IN7, 8 GND, 9 COM, 10 OUT7, 11 OUT6, 12 OUT5, 13 OUT4, 14 OUT3, 15 OUT2, 16 OUT1

## USB Receptacle (4 Pin)
designator J?, comment Molex 67643-3910
footprint Molex 67643-3910
pins: 1 VBUS, 2 D-, 3 D+, 4 GND, Shield

## USB Receptacle (5 Pin)
designator J?
footprint Molex 47346-0001
footprint Molex 204926-1103
footprint Molex 47642-1001
footprint Molex 105164-0001
pins: 1 VBUS, 2 D-, 3 D+, 4 ID, 5 GND, Shield

## USB-C Plug
designator J?, comment Molex 105444-0001
footprint Molex 105444-0001
pins: A1 GND, A2 TX1+, A3 TX1-, A4 VBUS, A5 CC1, A6 D+, A7 D-, A8 SBU1, A9 VBUS, A10 RX2-, A11 RX2+, A12 GND, B1 GND, B2 TX2+, B3 TX2-, B4 VBUS, B5 CC2, B8 SBU2, B9 VBUS, B10 RX1-, B11 RX1+, B12 GND, Shell

## USB-C Receptacle (16 Pin)
designator J?
footprint Molex 217179-0001
footprint UJ20-C-H-G-SMT-TR
pins: A1 B12 GND, A4 B9 VBUS, A5 CC1, A6 D+, A7 D-, A8 SBU1, B1 A12 GND, B4 A9 VBUS, B5 CC2, B6 D+, B7 D-, B8 SBU2, Shell

## USB-C Receptacle (24 Pin)
designator J?, comment TE 2305018-2
footprint TE 2305018-2
pins: A1 GND, A2 TX1+, A3 TX1-, A4 VBUS, A5 CC1, A6 D+, A7 D-, A8 SBU1, A9 VBUS, A10 RX2-, A11 RX2+, A12 GND, B1 GND, B2 TX2+, B3 TX2-, B4 VBUS, B5 CC2, B6 D+, B7 D-, B8 SBU2, B9 VBUS, B10 RX1-, B11 RX1+, B12 GND, Mid-Plate, Shell

## USBLC6-2
designator D?
footprint SOT-666
pins: 1, 2, 3, 4, 5, 6

## VG0832014L
designator M?
footprint VG0832014L
pins: 1, 2
text: M

## Wire Solder Pad
designator J?  (value not drawn)
footprint Wire Solder Pad 3x1.5mm
footprint Wire Solder Pad 2x1.5mm
pins: 1

## ZDSDXXGLGEAG
designator U?
footprint ZDSDXXGLGEAG
pins: 1 DAT2, 2 DAT3/CS, 3 CLK/SCLK, 4 GND, 5 CMD/DI, 6 DAT0/DO, 7 DAT1, 8 VDD

## µA78Mxx
designator U?
footprint SOT-223
pins: 1 IN, 2 GND, 3 OUT